# Altium schematic symbol library MCU_Microchip_PIC16.SchLib: 252 symbols (part 1 of 5)
Pins are listed as number, name and electrical type; pins without a type are passive.

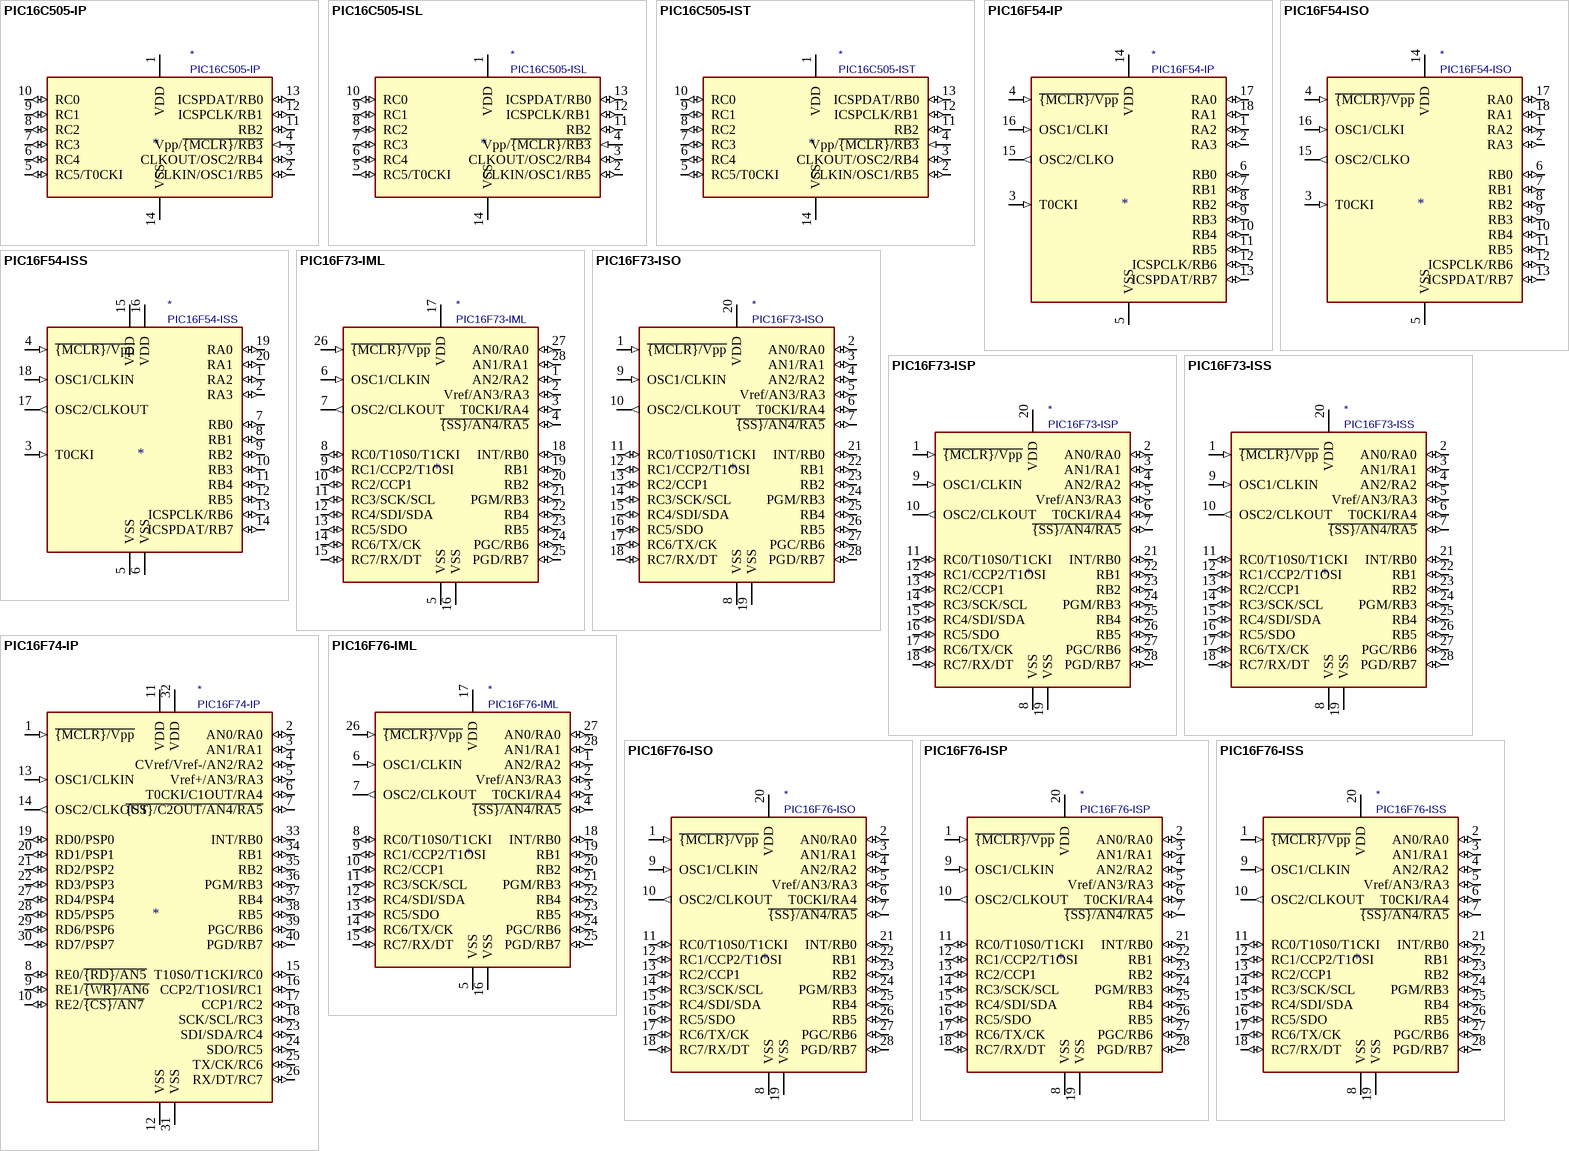
[diagram p0: symbols PIC16C505-IP to PIC16F76-ISS]

## PIC16C505-IP
designator *  value PIC16C505-IP
ki_keywords: ROM-Based 8bit Microcontroller; ki_description: 1024W ROM, 72B SRAM, DIP14; ki_fp_filters: PDIP* DIP*; Supplier: http://ww1.microchip.com/downloads/en/DeviceDoc/41236E.pdf
pins: 1 VDD (power), 2 CLKIN/OSC1/RB5 (io), 3 CLKOUT/OSC2/RB4 (io), 4 Vpp/~{{MCLR}/RB3} (in), 5 RC5/T0CKI (io), 6 RC4 (io), 7 RC3 (io), 8 RC2 (io), 9 RC1 (io), 10 RC0 (io), 11 RB2 (io), 12 ICSPCLK/RB1 (io), 13 ICSPDAT/RB0 (io), 14 VSS (power)

## PIC16C505-ISL
designator *  value PIC16C505-ISL
ki_keywords: ROM-Based 8bit Microcontroller; ki_description: PIC16C505, 1024W ROM, 72B SRAM, SO14; ki_fp_filters: SO* SOIC*; Supplier: http://ww1.microchip.com/downloads/en/DeviceDoc/41236E.pdf
pins: 1 VDD (power), 2 CLKIN/OSC1/RB5 (io), 3 CLKOUT/OSC2/RB4 (io), 4 Vpp/~{{MCLR}/RB3} (in), 5 RC5/T0CKI (io), 6 RC4 (io), 7 RC3 (io), 8 RC2 (io), 9 RC1 (io), 10 RC0 (io), 11 RB2 (io), 12 ICSPCLK/RB1 (io), 13 ICSPDAT/RB0 (io), 14 VSS (power)

## PIC16C505-IST
designator *  value PIC16C505-IST
ki_keywords: ROM-Based 8bit Microcontroller; ki_description: PIC16C505, 1024W ROM, 72B SRAM, TSSOP14; ki_fp_filters: TSSOP*; Supplier: http://ww1.microchip.com/downloads/en/DeviceDoc/41236E.pdf
pins: 1 VDD (power), 2 CLKIN/OSC1/RB5 (io), 3 CLKOUT/OSC2/RB4 (io), 4 Vpp/~{{MCLR}/RB3} (in), 5 RC5/T0CKI (io), 6 RC4 (io), 7 RC3 (io), 8 RC2 (io), 9 RC1 (io), 10 RC0 (io), 11 RB2 (io), 12 ICSPCLK/RB1 (io), 13 ICSPDAT/RB0 (io), 14 VSS (power)

## PIC16F54-IP
designator *  value PIC16F54-IP
ki_keywords: FLASH-Based 8-Bit CMOS Microcontroller; ki_description: 512W FLASH, 25B SRAM, DIP18; ki_fp_filters: DIP* PDIP*; Supplier: http://ww1.microchip.com/downloads/en/DeviceDoc/41213D.pdf
pins: 1 RA2 (io), 2 RA3 (io), 3 T0CKI (in), 4 ~{{MCLR}/Vpp} (in), 5 VSS (power), 6 RB0 (io), 7 RB1 (io), 8 RB2 (io), 9 RB3 (io), 10 RB4 (io), 11 RB5 (io), 12 ICSPCLK/RB6 (io), 13 ICSPDAT/RB7 (io), 14 VDD (power), 15 OSC2/CLKO (out), 16 OSC1/CLKI (in), 17 RA0 (io), 18 RA1 (io)

## PIC16F54-ISO
designator *  value PIC16F54-ISO
ki_keywords: FLASH-Based 8-Bit CMOS Microcontroller; ki_description: PIC16F54, 512W FLASH, 25B SRAM, SO18; ki_fp_filters: SO* SOIC*; Supplier: http://ww1.microchip.com/downloads/en/DeviceDoc/41213D.pdf
pins: 1 RA2 (io), 2 RA3 (io), 3 T0CKI (in), 4 ~{{MCLR}/Vpp} (in), 5 VSS (power), 6 RB0 (io), 7 RB1 (io), 8 RB2 (io), 9 RB3 (io), 10 RB4 (io), 11 RB5 (io), 12 ICSPCLK/RB6 (io), 13 ICSPDAT/RB7 (io), 14 VDD (power), 15 OSC2/CLKO (out), 16 OSC1/CLKI (in), 17 RA0 (io), 18 RA1 (io)

## PIC16F54-ISS
designator *  value PIC16F54-ISS
ki_keywords: FLASH-Based 8-Bit CMOS Microcontroller; ki_description: PIC16F54, 512W FLASH, 25B SRAM, SSOP20; ki_fp_filters: SSOP*; Supplier: http://ww1.microchip.com/downloads/en/DeviceDoc/41213D.pdf
pins: 1 RA2 (io), 2 RA3 (io), 3 T0CKI (in), 4 ~{{MCLR}/Vpp} (in), 5 VSS (power), 6 VSS (power), 7 RB0 (io), 8 RB1 (io), 9 RB2 (io), 10 RB3 (io), 11 RB4 (io), 12 RB5 (io), 13 ICSPCLK/RB6 (io), 14 ICSPDAT/RB7 (io), 15 VDD (power), 16 VDD (power), 17 OSC2/CLKOUT (out), 18 OSC1/CLKIN (in), 19 RA0 (io), 20 RA1 (io)

## PIC16F73-IML
designator *  value PIC16F73-IML
ki_keywords: Flash-Based 8-Bit Microcontroller; ki_description: PIC16F73, 4K Flash, 192B SRAM, ADC, PWM, MLF28; ki_fp_filters: MLF*; Supplier: http://ww1.microchip.com/downloads/en/DeviceDoc/30325b.pdf
pins: 1 AN2/RA2 (io), 2 Vref/AN3/RA3 (io), 3 T0CKI/RA4 (io), 4 ~{{SS}/AN4/RA5} (io), 5 VSS (power), 6 OSC1/CLKIN (in), 7 OSC2/CLKOUT (out), 8 RC0/T10S0/T1CKI (io), 9 RC1/CCP2/T1OSI (io), 10 RC2/CCP1 (io), 11 RC3/SCK/SCL (io), 12 RC4/SDI/SDA (io), 13 RC5/SDO (io), 14 RC6/TX/CK (io), 15 RC7/RX/DT (io), 16 VSS (power), 17 VDD (power), 18 INT/RB0 (io), 19 RB1 (io), 20 RB2 (io), 21 PGM/RB3 (io), 22 RB4 (io), 23 RB5 (io), 24 PGC/RB6 (io), 25 PGD/RB7 (io), 26 ~{{MCLR}/Vpp} (in), 27 AN0/RA0 (io), 28 AN1/RA1 (io)

## PIC16F73-ISO
designator *  value PIC16F73-ISO
ki_keywords: Flash-Based 8-Bit Microcontroller; ki_description: PIC16F73, 4K Flash, 192B SRAM, ADC, PWM, SOIC28; ki_fp_filters: SO*; Supplier: http://ww1.microchip.com/downloads/en/DeviceDoc/30325b.pdf
pins: 1 ~{{MCLR}/Vpp} (in), 2 AN0/RA0 (io), 3 AN1/RA1 (io), 4 AN2/RA2 (io), 5 Vref/AN3/RA3 (io), 6 T0CKI/RA4 (io), 7 ~{{SS}/AN4/RA5} (io), 8 VSS (power), 9 OSC1/CLKIN (in), 10 OSC2/CLKOUT (out), 11 RC0/T10S0/T1CKI (io), 12 RC1/CCP2/T1OSI (io), 13 RC2/CCP1 (io), 14 RC3/SCK/SCL (io), 15 RC4/SDI/SDA (io), 16 RC5/SDO (io), 17 RC6/TX/CK (io), 18 RC7/RX/DT (io), 19 VSS (power), 20 VDD (power), 21 INT/RB0 (io), 22 RB1 (io), 23 RB2 (io), 24 PGM/RB3 (io), 25 RB4 (io), 26 RB5 (io), 27 PGC/RB6 (io), 28 PGD/RB7 (io)

## PIC16F73-ISP
designator *  value PIC16F73-ISP
ki_keywords: Flash-Based 8-Bit Microcontroller; ki_description: PIC16F73, 4K Flash, 192B SRAM, ADC, PWM, SDIP28; ki_fp_filters: DIP* PDIP*; Supplier: http://ww1.microchip.com/downloads/en/DeviceDoc/30325b.pdf
pins: 1 ~{{MCLR}/Vpp} (in), 2 AN0/RA0 (io), 3 AN1/RA1 (io), 4 AN2/RA2 (io), 5 Vref/AN3/RA3 (io), 6 T0CKI/RA4 (io), 7 ~{{SS}/AN4/RA5} (io), 8 VSS (power), 9 OSC1/CLKIN (in), 10 OSC2/CLKOUT (out), 11 RC0/T10S0/T1CKI (io), 12 RC1/CCP2/T1OSI (io), 13 RC2/CCP1 (io), 14 RC3/SCK/SCL (io), 15 RC4/SDI/SDA (io), 16 RC5/SDO (io), 17 RC6/TX/CK (io), 18 RC7/RX/DT (io), 19 VSS (power), 20 VDD (power), 21 INT/RB0 (io), 22 RB1 (io), 23 RB2 (io), 24 PGM/RB3 (io), 25 RB4 (io), 26 RB5 (io), 27 PGC/RB6 (io), 28 PGD/RB7 (io)

## PIC16F73-ISS
designator *  value PIC16F73-ISS
ki_keywords: Flash-Based 8-Bit Microcontroller; ki_description: PIC16F73, 4K Flash, 192B SRAM, ADC, PWM, SSOP28; ki_fp_filters: SSOP*; Supplier: http://ww1.microchip.com/downloads/en/DeviceDoc/30325b.pdf
pins: 1 ~{{MCLR}/Vpp} (in), 2 AN0/RA0 (io), 3 AN1/RA1 (io), 4 AN2/RA2 (io), 5 Vref/AN3/RA3 (io), 6 T0CKI/RA4 (io), 7 ~{{SS}/AN4/RA5} (io), 8 VSS (power), 9 OSC1/CLKIN (in), 10 OSC2/CLKOUT (out), 11 RC0/T10S0/T1CKI (io), 12 RC1/CCP2/T1OSI (io), 13 RC2/CCP1 (io), 14 RC3/SCK/SCL (io), 15 RC4/SDI/SDA (io), 16 RC5/SDO (io), 17 RC6/TX/CK (io), 18 RC7/RX/DT (io), 19 VSS (power), 20 VDD (power), 21 INT/RB0 (io), 22 RB1 (io), 23 RB2 (io), 24 PGM/RB3 (io), 25 RB4 (io), 26 RB5 (io), 27 PGC/RB6 (io), 28 PGD/RB7 (io)

## PIC16F74-IP
designator *  value PIC16F74-IP
ki_keywords: Flash-Based 8-Bit Microcontroller; ki_description: 4K Flash, 192B SRAM, ADC, PWM, DIP40; ki_fp_filters: DIP* PDIP*; Supplier: http://ww1.microchip.com/downloads/en/DeviceDoc/30325b.pdf
pins: 1 ~{{MCLR}/Vpp} (in), 2 AN0/RA0 (io), 3 AN1/RA1 (io), 4 CVref/Vref-/AN2/RA2 (io), 5 Vref+/AN3/RA3 (io), 6 T0CKI/C1OUT/RA4 (io), 7 ~{{SS}/C2OUT/AN4/RA5} (io), 8 RE0/~{{RD}/AN5} (io), 9 RE1/~{{WR}/AN6} (io), 10 RE2/~{{CS}/AN7} (io), 11 VDD (power), 12 VSS (power), 13 OSC1/CLKIN (in), 14 OSC2/CLKOUT (out), 15 T10S0/T1CKI/RC0 (io), 16 CCP2/T1OSI/RC1 (io), 17 CCP1/RC2 (io), 18 SCK/SCL/RC3 (io), 19 RD0/PSP0 (io), 20 RD1/PSP1 (io), 21 RD2/PSP2 (io), 22 RD3/PSP3 (io), 23 SDI/SDA/RC4 (io), 24 SDO/RC5 (io), 25 TX/CK/RC6 (io), 26 RX/DT/RC7 (io), 27 RD4/PSP4 (io), 28 RD5/PSP5 (io), 29 RD6/PSP6 (io), 30 RD7/PSP7 (io), 31 VSS (power), 32 VDD (power), 33 INT/RB0 (io), 34 RB1 (io), 35 RB2 (io), 36 PGM/RB3 (io), 37 RB4 (io), 38 RB5 (io), 39 PGC/RB6 (io), 40 PGD/RB7 (io)

## PIC16F76-IML
designator *  value PIC16F76-IML
ki_keywords: Flash-Based 8-Bit Microcontroller; ki_description: PIC16F76, 8K Flash, 368B SRAM, ADC, PWM, MLF28; ki_fp_filters: MLF*; Supplier: http://ww1.microchip.com/downloads/en/DeviceDoc/30325b.pdf
pins: 1 AN2/RA2 (io), 2 Vref/AN3/RA3 (io), 3 T0CKI/RA4 (io), 4 ~{{SS}/AN4/RA5} (io), 5 VSS (power), 6 OSC1/CLKIN (in), 7 OSC2/CLKOUT (out), 8 RC0/T10S0/T1CKI (io), 9 RC1/CCP2/T1OSI (io), 10 RC2/CCP1 (io), 11 RC3/SCK/SCL (io), 12 RC4/SDI/SDA (io), 13 RC5/SDO (io), 14 RC6/TX/CK (io), 15 RC7/RX/DT (io), 16 VSS (power), 17 VDD (power), 18 INT/RB0 (io), 19 RB1 (io), 20 RB2 (io), 21 PGM/RB3 (io), 22 RB4 (io), 23 RB5 (io), 24 PGC/RB6 (io), 25 PGD/RB7 (io), 26 ~{{MCLR}/Vpp} (in), 27 AN0/RA0 (io), 28 AN1/RA1 (io)

## PIC16F76-ISO
designator *  value PIC16F76-ISO
ki_keywords: Flash-Based 8-Bit Microcontroller; ki_description: PIC16F76, 8K Flash, 368B SRAM, ADC, PWM, SOIC28; ki_fp_filters: SO*; Supplier: http://ww1.microchip.com/downloads/en/DeviceDoc/30325b.pdf
pins: 1 ~{{MCLR}/Vpp} (in), 2 AN0/RA0 (io), 3 AN1/RA1 (io), 4 AN2/RA2 (io), 5 Vref/AN3/RA3 (io), 6 T0CKI/RA4 (io), 7 ~{{SS}/AN4/RA5} (io), 8 VSS (power), 9 OSC1/CLKIN (in), 10 OSC2/CLKOUT (out), 11 RC0/T10S0/T1CKI (io), 12 RC1/CCP2/T1OSI (io), 13 RC2/CCP1 (io), 14 RC3/SCK/SCL (io), 15 RC4/SDI/SDA (io), 16 RC5/SDO (io), 17 RC6/TX/CK (io), 18 RC7/RX/DT (io), 19 VSS (power), 20 VDD (power), 21 INT/RB0 (io), 22 RB1 (io), 23 RB2 (io), 24 PGM/RB3 (io), 25 RB4 (io), 26 RB5 (io), 27 PGC/RB6 (io), 28 PGD/RB7 (io)

## PIC16F76-ISP
designator *  value PIC16F76-ISP
ki_keywords: Flash-Based 8-Bit Microcontroller; ki_description: PIC16F76, 8K Flash, 368B SRAM, ADC, PWM, SDIP28; ki_fp_filters: DIP* PDIP*; Supplier: http://ww1.microchip.com/downloads/en/DeviceDoc/30325b.pdf
pins: 1 ~{{MCLR}/Vpp} (in), 2 AN0/RA0 (io), 3 AN1/RA1 (io), 4 AN2/RA2 (io), 5 Vref/AN3/RA3 (io), 6 T0CKI/RA4 (io), 7 ~{{SS}/AN4/RA5} (io), 8 VSS (power), 9 OSC1/CLKIN (in), 10 OSC2/CLKOUT (out), 11 RC0/T10S0/T1CKI (io), 12 RC1/CCP2/T1OSI (io), 13 RC2/CCP1 (io), 14 RC3/SCK/SCL (io), 15 RC4/SDI/SDA (io), 16 RC5/SDO (io), 17 RC6/TX/CK (io), 18 RC7/RX/DT (io), 19 VSS (power), 20 VDD (power), 21 INT/RB0 (io), 22 RB1 (io), 23 RB2 (io), 24 PGM/RB3 (io), 25 RB4 (io), 26 RB5 (io), 27 PGC/RB6 (io), 28 PGD/RB7 (io)

## PIC16F76-ISS
designator *  value PIC16F76-ISS
ki_keywords: Flash-Based 8-Bit Microcontroller; ki_description: PIC16F76, 8K Flash, 368B SRAM, ADC, PWM, SSOP28; ki_fp_filters: SSOP*; Supplier: http://ww1.microchip.com/downloads/en/DeviceDoc/30325b.pdf
pins: 1 ~{{MCLR}/Vpp} (in), 2 AN0/RA0 (io), 3 AN1/RA1 (io), 4 AN2/RA2 (io), 5 Vref/AN3/RA3 (io), 6 T0CKI/RA4 (io), 7 ~{{SS}/AN4/RA5} (io), 8 VSS (power), 9 OSC1/CLKIN (in), 10 OSC2/CLKOUT (out), 11 RC0/T10S0/T1CKI (io), 12 RC1/CCP2/T1OSI (io), 13 RC2/CCP1 (io), 14 RC3/SCK/SCL (io), 15 RC4/SDI/SDA (io), 16 RC5/SDO (io), 17 RC6/TX/CK (io), 18 RC7/RX/DT (io), 19 VSS (power), 20 VDD (power), 21 INT/RB0 (io), 22 RB1 (io), 23 RB2 (io), 24 PGM/RB3 (io), 25 RB4 (io), 26 RB5 (io), 27 PGC/RB6 (io), 28 PGD/RB7 (io)

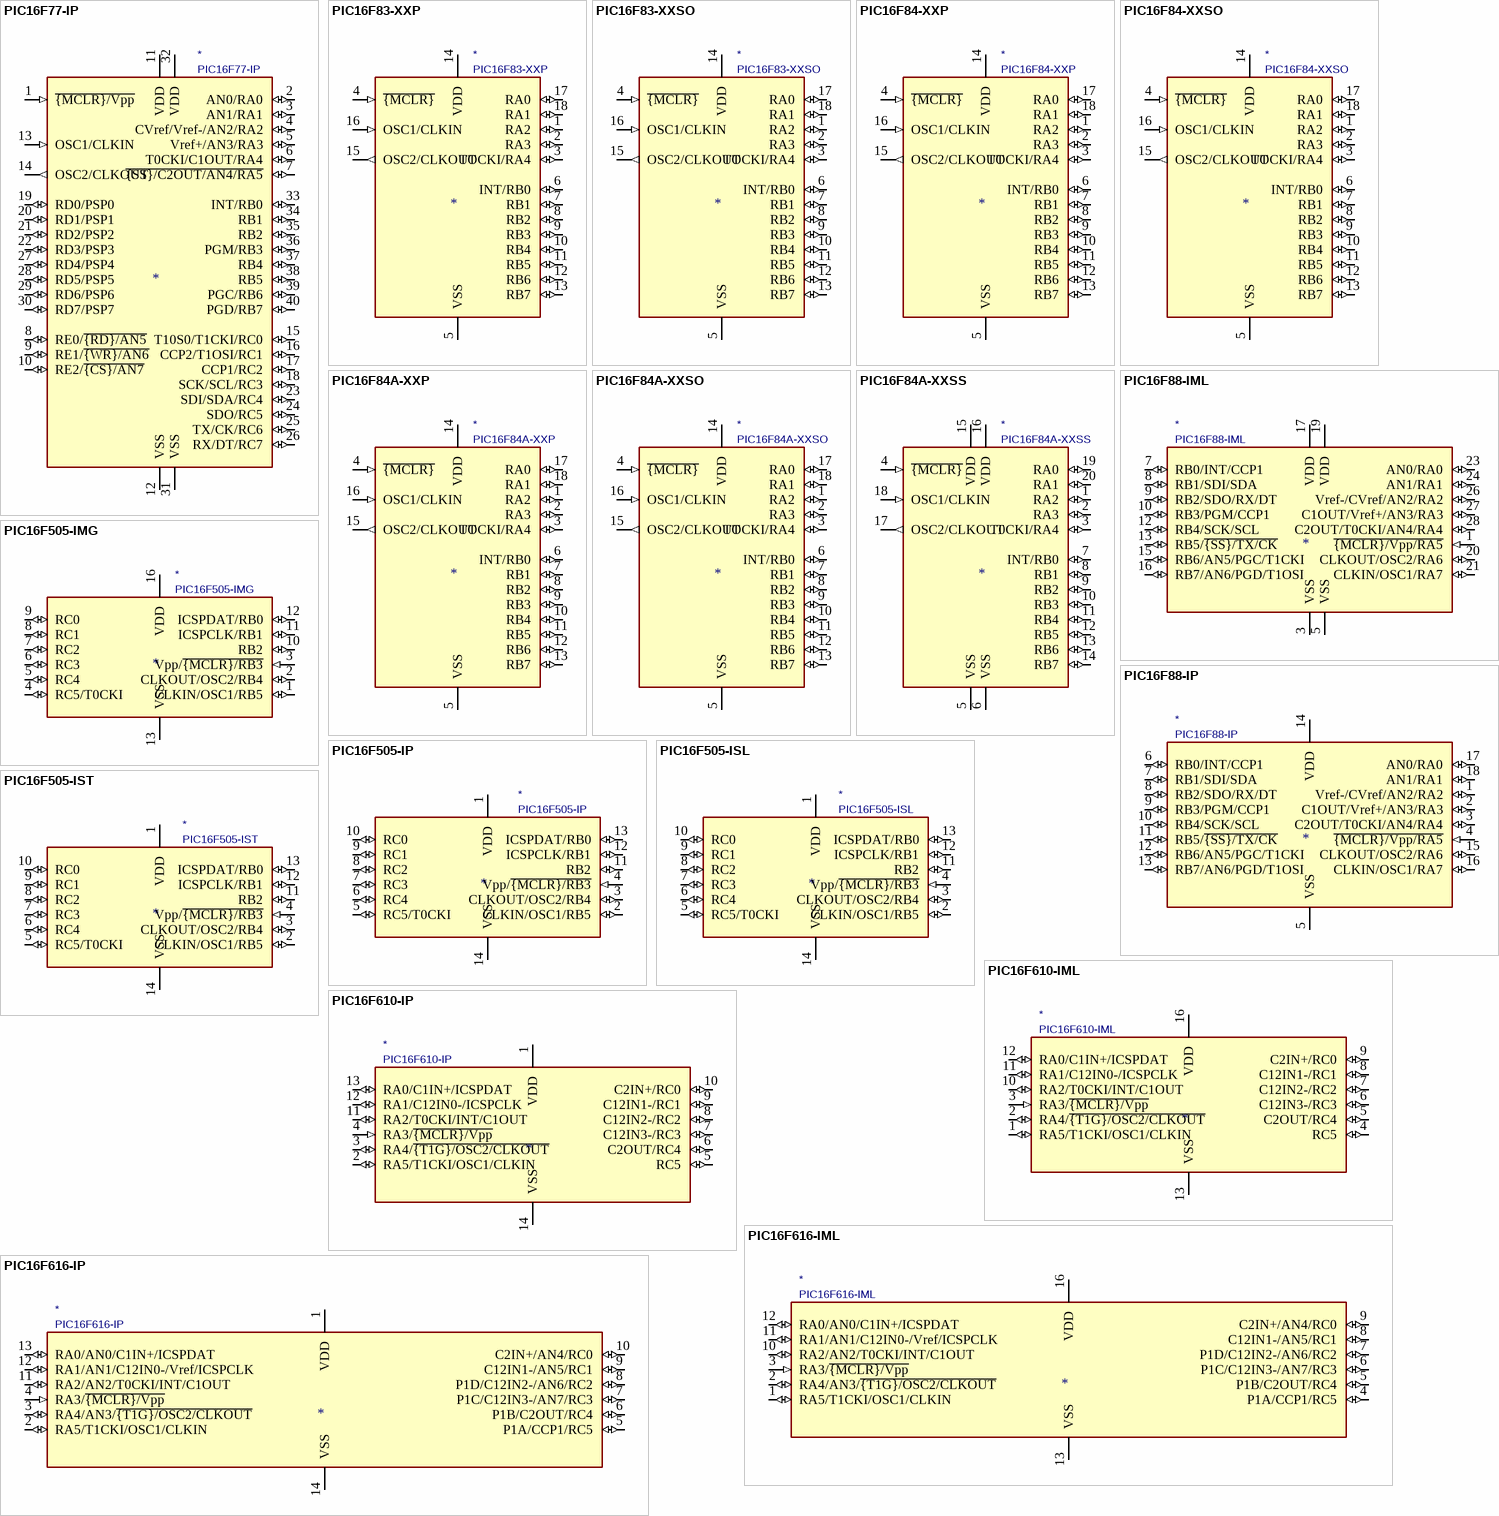
[diagram p1: symbols PIC16F77-IP to PIC16F616-IP]

## PIC16F77-IP
designator *  value PIC16F77-IP
ki_keywords: Flash-Based 8-Bit Microcontroller; ki_description: 8K Flash, 368B SRAM, ADC, PWM, DIP40; ki_fp_filters: DIP* PDIP*; Supplier: http://ww1.microchip.com/downloads/en/DeviceDoc/30325b.pdf
pins: 1 ~{{MCLR}/Vpp} (in), 2 AN0/RA0 (io), 3 AN1/RA1 (io), 4 CVref/Vref-/AN2/RA2 (io), 5 Vref+/AN3/RA3 (io), 6 T0CKI/C1OUT/RA4 (io), 7 ~{{SS}/C2OUT/AN4/RA5} (io), 8 RE0/~{{RD}/AN5} (io), 9 RE1/~{{WR}/AN6} (io), 10 RE2/~{{CS}/AN7} (io), 11 VDD (power), 12 VSS (power), 13 OSC1/CLKIN (in), 14 OSC2/CLKOUT (out), 15 T10S0/T1CKI/RC0 (io), 16 CCP2/T1OSI/RC1 (io), 17 CCP1/RC2 (io), 18 SCK/SCL/RC3 (io), 19 RD0/PSP0 (io), 20 RD1/PSP1 (io), 21 RD2/PSP2 (io), 22 RD3/PSP3 (io), 23 SDI/SDA/RC4 (io), 24 SDO/RC5 (io), 25 TX/CK/RC6 (io), 26 RX/DT/RC7 (io), 27 RD4/PSP4 (io), 28 RD5/PSP5 (io), 29 RD6/PSP6 (io), 30 RD7/PSP7 (io), 31 VSS (power), 32 VDD (power), 33 INT/RB0 (io), 34 RB1 (io), 35 RB2 (io), 36 PGM/RB3 (io), 37 RB4 (io), 38 RB5 (io), 39 PGC/RB6 (io), 40 PGD/RB7 (io)

## PIC16F83-XXP
designator *  value PIC16F83-XXP
ki_keywords: Flash-Based 8-Bit Microcontroller; ki_description: PIC16F83, 512B Flash, 36B SRAM, 64B EEPROM, DIP18; ki_fp_filters: DIP* PDIP*; Supplier: http://ww1.microchip.com/downloads/en/DeviceDoc/30430c.pdf
pins: 1 RA2 (io), 2 RA3 (io), 3 TOCKI/RA4 (io), 4 ~{{MCLR}} (in), 5 VSS (power), 6 INT/RB0 (io), 7 RB1 (io), 8 RB2 (io), 9 RB3 (io), 10 RB4 (io), 11 RB5 (io), 12 RB6 (io), 13 RB7 (io), 14 VDD (power), 15 OSC2/CLKOUT (out), 16 OSC1/CLKIN (in), 17 RA0 (io), 18 RA1 (io)

## PIC16F83-XXSO
designator *  value PIC16F83-XXSO
ki_keywords: Flash-Based 8-Bit Microcontroller; ki_description: PIC16F83, 512B Flash, 36B SRAM, 64B EEPROM, SOIC18; ki_fp_filters: SO*; Supplier: http://ww1.microchip.com/downloads/en/DeviceDoc/30430c.pdf
pins: 1 RA2 (io), 2 RA3 (io), 3 TOCKI/RA4 (io), 4 ~{{MCLR}} (in), 5 VSS (power), 6 INT/RB0 (io), 7 RB1 (io), 8 RB2 (io), 9 RB3 (io), 10 RB4 (io), 11 RB5 (io), 12 RB6 (io), 13 RB7 (io), 14 VDD (power), 15 OSC2/CLKOUT (out), 16 OSC1/CLKIN (in), 17 RA0 (io), 18 RA1 (io)

## PIC16F84-XXP
designator *  value PIC16F84-XXP
ki_keywords: Flash-Based 8-Bit Microcontroller; ki_description: PIC16F84, 1K Flash, 68B SRAM, 64B EEPROM, DIP18; ki_fp_filters: DIP* PDIP*; Supplier: http://ww1.microchip.com/downloads/en/DeviceDoc/30430c.pdf
pins: 1 RA2 (io), 2 RA3 (io), 3 TOCKI/RA4 (io), 4 ~{{MCLR}} (in), 5 VSS (power), 6 INT/RB0 (io), 7 RB1 (io), 8 RB2 (io), 9 RB3 (io), 10 RB4 (io), 11 RB5 (io), 12 RB6 (io), 13 RB7 (io), 14 VDD (power), 15 OSC2/CLKOUT (out), 16 OSC1/CLKIN (in), 17 RA0 (io), 18 RA1 (io)

## PIC16F84-XXSO
designator *  value PIC16F84-XXSO
ki_keywords: Flash-Based 8-Bit Microcontroller; ki_description: PIC16F84, 1KB Flash, 68B SRAM, 64B EEPROM, SOIC18; ki_fp_filters: SO*; Supplier: http://ww1.microchip.com/downloads/en/DeviceDoc/30430c.pdf
pins: 1 RA2 (io), 2 RA3 (io), 3 TOCKI/RA4 (io), 4 ~{{MCLR}} (in), 5 VSS (power), 6 INT/RB0 (io), 7 RB1 (io), 8 RB2 (io), 9 RB3 (io), 10 RB4 (io), 11 RB5 (io), 12 RB6 (io), 13 RB7 (io), 14 VDD (power), 15 OSC2/CLKOUT (out), 16 OSC1/CLKIN (in), 17 RA0 (io), 18 RA1 (io)

## PIC16F84A-XXP
designator *  value PIC16F84A-XXP
ki_keywords: Flash-Based 8-Bit Microcontroller; ki_description: PIC16F84A, 1K Flash, 68B SRAM, 64B EEPROM, DIP18; ki_fp_filters: DIP* PDIP*; Supplier: http://ww1.microchip.com/downloads/en/devicedoc/35007b.pdf
pins: 1 RA2 (io), 2 RA3 (io), 3 TOCKI/RA4 (io), 4 ~{{MCLR}} (in), 5 VSS (power), 6 INT/RB0 (io), 7 RB1 (io), 8 RB2 (io), 9 RB3 (io), 10 RB4 (io), 11 RB5 (io), 12 RB6 (io), 13 RB7 (io), 14 VDD (power), 15 OSC2/CLKOUT (out), 16 OSC1/CLKIN (in), 17 RA0 (io), 18 RA1 (io)

## PIC16F84A-XXSO
designator *  value PIC16F84A-XXSO
ki_keywords: Flash-Based 8-Bit Microcontroller; ki_description: PIC16F84A, 1KB Flash, 68B SRAM, 64B EEPROM, SOIC18; ki_fp_filters: SO*; Supplier: http://ww1.microchip.com/downloads/en/devicedoc/35007b.pdf
pins: 1 RA2 (io), 2 RA3 (io), 3 TOCKI/RA4 (io), 4 ~{{MCLR}} (in), 5 VSS (power), 6 INT/RB0 (io), 7 RB1 (io), 8 RB2 (io), 9 RB3 (io), 10 RB4 (io), 11 RB5 (io), 12 RB6 (io), 13 RB7 (io), 14 VDD (power), 15 OSC2/CLKOUT (out), 16 OSC1/CLKIN (in), 17 RA0 (io), 18 RA1 (io)

## PIC16F84A-XXSS
designator *  value PIC16F84A-XXSS
ki_keywords: Flash-Based 8-Bit Microcontroller; ki_description: PIC16F84A, 1KB Flash, 68B SRAM, 64B EEPROM, SSOP18; ki_fp_filters: SSOP*; Supplier: http://ww1.microchip.com/downloads/en/devicedoc/35007b.pdf
pins: 1 RA2 (io), 2 RA3 (io), 3 T0CKI/RA4 (io), 4 ~{{MCLR}} (in), 5 VSS (power), 6 VSS (power), 7 INT/RB0 (io), 8 RB1 (io), 9 RB2 (io), 10 RB3 (io), 11 RB4 (io), 12 RB5 (io), 13 RB6 (io), 14 RB7 (io), 15 VDD (power), 16 VDD (power), 17 OSC2/CLKOUT (out), 18 OSC1/CLKIN (in), 19 RA0 (io), 20 RA1 (io)

## PIC16F88-IML
designator *  value PIC16F88-IML
ki_keywords: FLASH-Based 8-Bit CMOS Microcontroller; ki_description: PIC16F88, 4096W Flash, 368B SRAM, 256B EEPROM, QFN-28; ki_fp_filters: DIP* PDIP*; Supplier: http://ww1.microchip.com/downloads/en/DeviceDoc/30487D.pdf
pins: 1 ~{{MCLR}/Vpp/RA5} (in), 3 VSS (power), 5 VSS (power), 7 RB0/INT/CCP1 (io), 8 RB1/SDI/SDA (io), 9 RB2/SDO/RX/DT (io), 10 RB3/PGM/CCP1 (io), 12 RB4/SCK/SCL (io), 13 RB5/~{{SS}/TX/CK} (io), 15 RB6/AN5/PGC/T1CKI (io), 16 RB7/AN6/PGD/T1OSI (io), 17 VDD (power), 19 VDD (power), 20 CLKOUT/OSC2/RA6 (io), 21 CLKIN/OSC1/RA7 (io), 23 AN0/RA0 (io), 24 AN1/RA1 (io), 26 Vref-/CVref/AN2/RA2 (io), 27 C1OUT/Vref+/AN3/RA3 (io), 28 C2OUT/T0CKI/AN4/RA4 (io)

## PIC16F88-IP
designator *  value PIC16F88-IP
ki_keywords: FLASH-Based 8-Bit CMOS Microcontroller; ki_description: PIC16F88, 4096W Flash, 368B SRAM, 256B EEPROM, DIP18; ki_fp_filters: DIP* PDIP*; Supplier: http://ww1.microchip.com/downloads/en/DeviceDoc/30487D.pdf
pins: 1 Vref-/CVref/AN2/RA2 (io), 2 C1OUT/Vref+/AN3/RA3 (io), 3 C2OUT/T0CKI/AN4/RA4 (io), 4 ~{{MCLR}/Vpp/RA5} (in), 5 VSS (power), 6 RB0/INT/CCP1 (io), 7 RB1/SDI/SDA (io), 8 RB2/SDO/RX/DT (io), 9 RB3/PGM/CCP1 (io), 10 RB4/SCK/SCL (io), 11 RB5/~{{SS}/TX/CK} (io), 12 RB6/AN5/PGC/T1CKI (io), 13 RB7/AN6/PGD/T1OSI (io), 14 VDD (power), 15 CLKOUT/OSC2/RA6 (io), 16 CLKIN/OSC1/RA7 (io), 17 AN0/RA0 (io), 18 AN1/RA1 (io)

## PIC16F505-IMG
designator *  value PIC16F505-IMG
ki_keywords: FLASH-Based 8bit Microcontroller; ki_description: PIC16F505, 1024W FLASH, 72B SRAM, QFN16; ki_fp_filters: QFN*; Supplier: http://ww1.microchip.com/downloads/en/DeviceDoc/41236E.pdf
pins: 1 CLKIN/OSC1/RB5 (io), 2 CLKOUT/OSC2/RB4 (io), 3 Vpp/~{{MCLR}/RB3} (in), 4 RC5/T0CKI (io), 5 RC4 (io), 6 RC3 (io), 7 RC2 (io), 8 RC1 (io), 9 RC0 (io), 10 RB2 (io), 11 ICSPCLK/RB1 (io), 12 ICSPDAT/RB0 (io), 13 VSS (power), 16 VDD (power)

## PIC16F505-IP
designator *  value PIC16F505-IP
ki_keywords: FLASH-Based 8bit Microcontroller; ki_description: 1024W FLASH, 72B SRAM, DIP14; ki_fp_filters: PDIP* DIP*; Supplier: http://ww1.microchip.com/downloads/en/DeviceDoc/41236E.pdf
pins: 1 VDD (power), 2 CLKIN/OSC1/RB5 (io), 3 CLKOUT/OSC2/RB4 (io), 4 Vpp/~{{MCLR}/RB3} (in), 5 RC5/T0CKI (io), 6 RC4 (io), 7 RC3 (io), 8 RC2 (io), 9 RC1 (io), 10 RC0 (io), 11 RB2 (io), 12 ICSPCLK/RB1 (io), 13 ICSPDAT/RB0 (io), 14 VSS (power)

## PIC16F505-ISL
designator *  value PIC16F505-ISL
ki_keywords: FLASH-Based 8bit Microcontroller; ki_description: PIC16F505, 1024W FLASH, 72B SRAM, SO14; ki_fp_filters: SO* SOIC*; Supplier: http://ww1.microchip.com/downloads/en/DeviceDoc/41236E.pdf
pins: 1 VDD (power), 2 CLKIN/OSC1/RB5 (io), 3 CLKOUT/OSC2/RB4 (io), 4 Vpp/~{{MCLR}/RB3} (in), 5 RC5/T0CKI (io), 6 RC4 (io), 7 RC3 (io), 8 RC2 (io), 9 RC1 (io), 10 RC0 (io), 11 RB2 (io), 12 ICSPCLK/RB1 (io), 13 ICSPDAT/RB0 (io), 14 VSS (power)

## PIC16F505-IST
designator *  value PIC16F505-IST
ki_keywords: FLASH-Based 8bit Microcontroller; ki_description: PIC16F505, 1024W FLASH, 72B SRAM, TSSOP14; ki_fp_filters: TSSOP*; Supplier: http://ww1.microchip.com/downloads/en/DeviceDoc/41236E.pdf
pins: 1 VDD (power), 2 CLKIN/OSC1/RB5 (io), 3 CLKOUT/OSC2/RB4 (io), 4 Vpp/~{{MCLR}/RB3} (in), 5 RC5/T0CKI (io), 6 RC4 (io), 7 RC3 (io), 8 RC2 (io), 9 RC1 (io), 10 RC0 (io), 11 RB2 (io), 12 ICSPCLK/RB1 (io), 13 ICSPDAT/RB0 (io), 14 VSS (power)

## PIC16F610-IML
designator *  value PIC16F610-IML
ki_keywords: FLASH-Based 8-Bit CMOS Microcontroller Low Power; ki_description: PIC16F610, 1024W FLASH, 64B SRAM, QFN-16; ki_fp_filters: QFN*; Supplier: http://ww1.microchip.com/downloads/en/DeviceDoc/41288F.pdf
pins: 1 RA5/T1CKI/OSC1/CLKIN (io), 2 RA4/~{{T1G}/OSC2/CLKOUT} (io), 3 RA3/~{{MCLR}/Vpp} (in), 4 RC5 (io), 5 C2OUT/RC4 (io), 6 C12IN3-/RC3 (io), 7 C12IN2-/RC2 (io), 8 C12IN1-/RC1 (io), 9 C2IN+/RC0 (io), 10 RA2/T0CKI/INT/C1OUT (io), 11 RA1/C12IN0-/ICSPCLK (io), 12 RA0/C1IN+/ICSPDAT (io), 13 VSS (power), 16 VDD (power)

## PIC16F610-IP
designator *  value PIC16F610-IP
ki_keywords: FLASH-Based 8-Bit CMOS Microcontroller Low Power; ki_description: 1024W FLASH, 64B SRAM, PDIP-14; ki_fp_filters: DIP* PDIP* SO*; Supplier: http://ww1.microchip.com/downloads/en/DeviceDoc/41288F.pdf
pins: 1 VDD (power), 2 RA5/T1CKI/OSC1/CLKIN (io), 3 RA4/~{{T1G}/OSC2/CLKOUT} (io), 4 RA3/~{{MCLR}/Vpp} (in), 5 RC5 (io), 6 C2OUT/RC4 (io), 7 C12IN3-/RC3 (io), 8 C12IN2-/RC2 (io), 9 C12IN1-/RC1 (io), 10 C2IN+/RC0 (io), 11 RA2/T0CKI/INT/C1OUT (io), 12 RA1/C12IN0-/ICSPCLK (io), 13 RA0/C1IN+/ICSPDAT (io), 14 VSS (power)

## PIC16F616-IML
designator *  value PIC16F616-IML
ki_keywords: FLASH-Based 8-Bit CMOS Microcontroller Low Power; ki_description: PIC16F616, 2048W FLASH, 128B SRAM, QFN-16; ki_fp_filters: QFN*; Supplier: http://ww1.microchip.com/downloads/en/DeviceDoc/41288F.pdf
pins: 1 RA5/T1CKI/OSC1/CLKIN (io), 2 RA4/AN3/~{{T1G}/OSC2/CLKOUT} (io), 3 RA3/~{{MCLR}/Vpp} (in), 4 P1A/CCP1/RC5 (io), 5 P1B/C2OUT/RC4 (io), 6 P1C/C12IN3-/AN7/RC3 (io), 7 P1D/C12IN2-/AN6/RC2 (io), 8 C12IN1-/AN5/RC1 (io), 9 C2IN+/AN4/RC0 (io), 10 RA2/AN2/T0CKI/INT/C1OUT (io), 11 RA1/AN1/C12IN0-/Vref/ICSPCLK (io), 12 RA0/AN0/C1IN+/ICSPDAT (io), 13 VSS (power), 16 VDD (power)

## PIC16F616-IP
designator *  value PIC16F616-IP
ki_keywords: FLASH-Based 8-Bit CMOS Microcontroller Low Power; ki_description: 2048W FLASH, 128B SRAM, PDIP-14; ki_fp_filters: DIP* PDIP* SO*; Supplier: http://ww1.microchip.com/downloads/en/DeviceDoc/41288F.pdf
pins: 1 VDD (power), 2 RA5/T1CKI/OSC1/CLKIN (io), 3 RA4/AN3/~{{T1G}/OSC2/CLKOUT} (io), 4 RA3/~{{MCLR}/Vpp} (in), 5 P1A/CCP1/RC5 (io), 6 P1B/C2OUT/RC4 (io), 7 P1C/C12IN3-/AN7/RC3 (io), 8 P1D/C12IN2-/AN6/RC2 (io), 9 C12IN1-/AN5/RC1 (io), 10 C2IN+/AN4/RC0 (io), 11 RA2/AN2/T0CKI/INT/C1OUT (io), 12 RA1/AN1/C12IN0-/Vref/ICSPCLK (io), 13 RA0/AN0/C1IN+/ICSPDAT (io), 14 VSS (power)

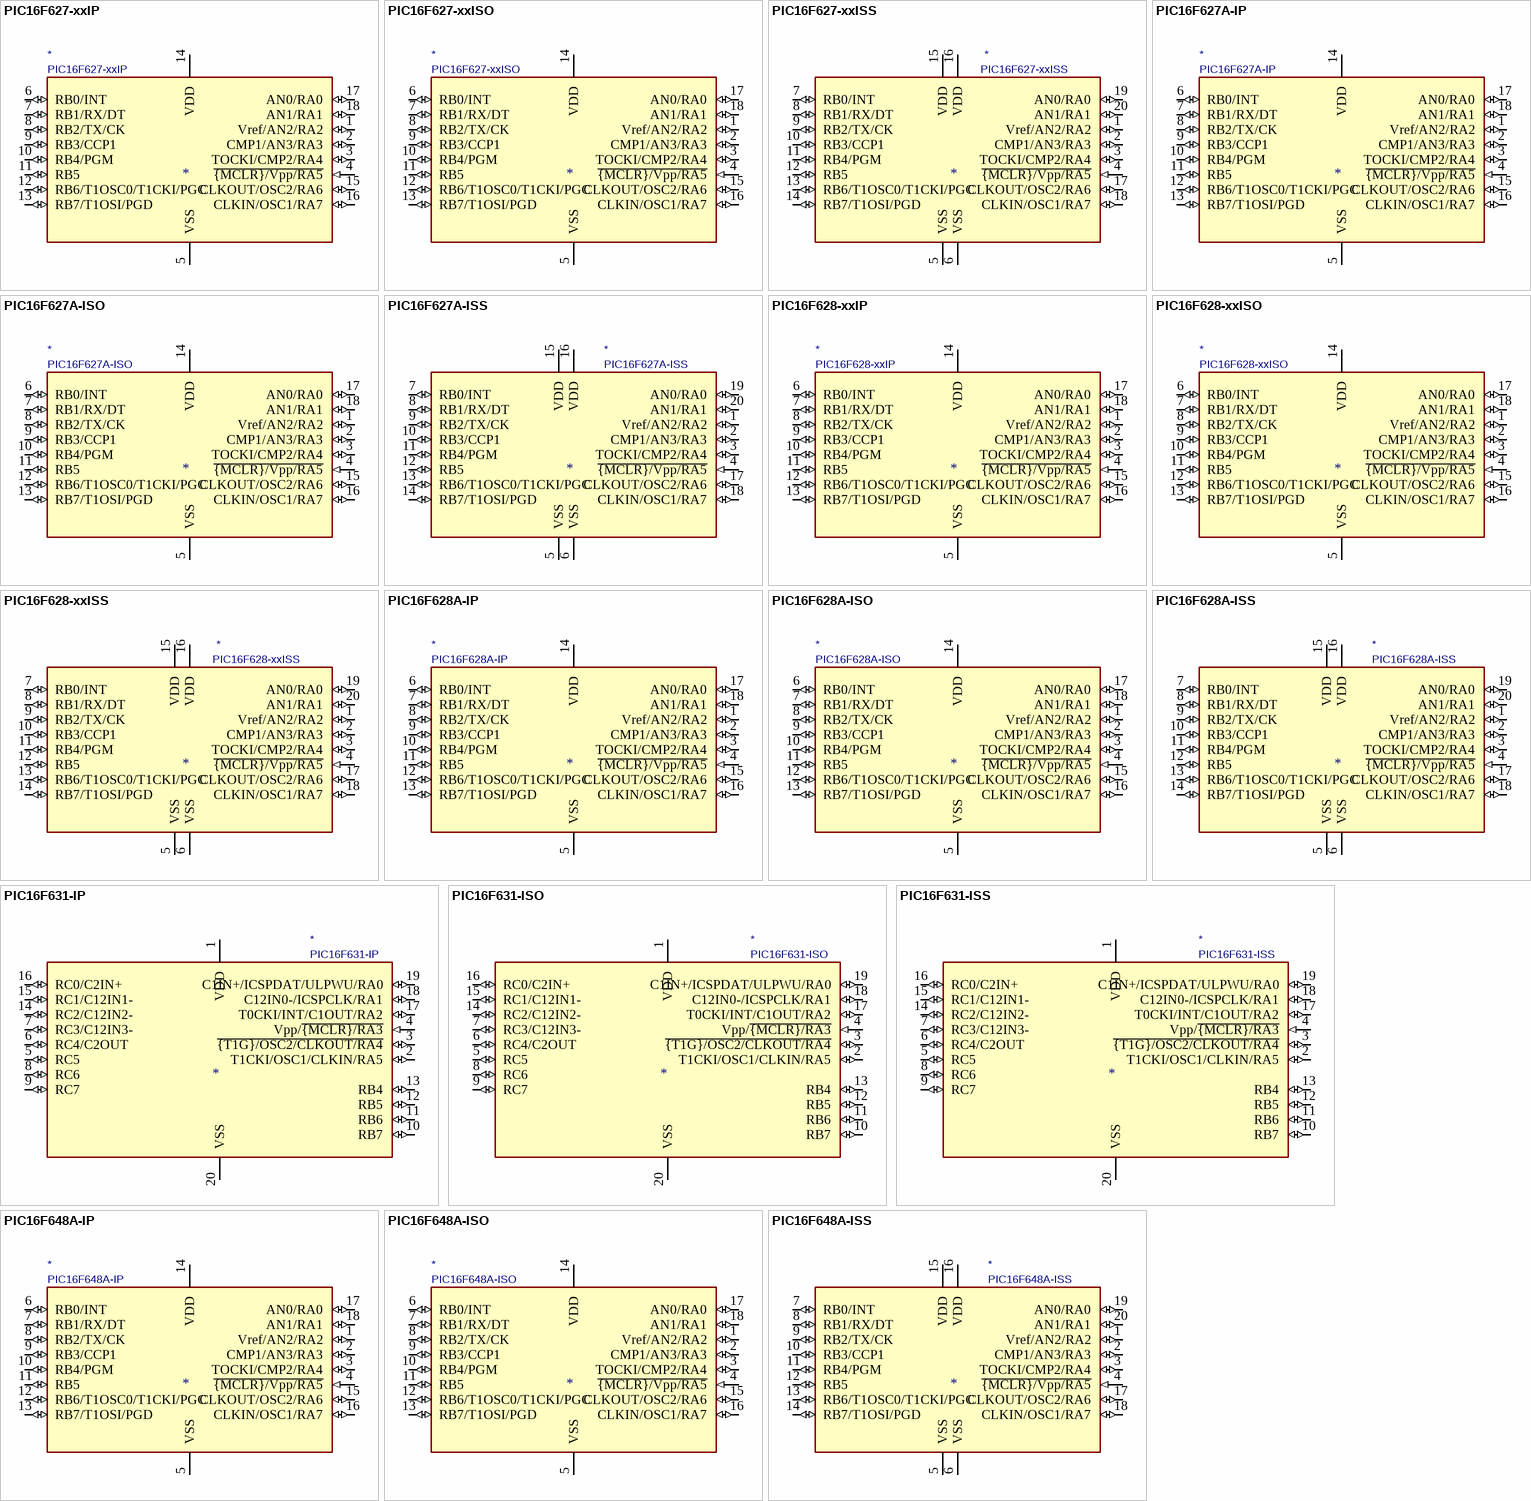
[diagram p2: symbols PIC16F627-xxIP to PIC16F648A-ISS]

## PIC16F627-xxIP
designator *  value PIC16F627-xxIP
ki_keywords: FLASH-Based 8-Bit CMOS Microcontroller; ki_description: 1024W Flash, 224B SRAM, 128B EEPROM, DIP18; ki_fp_filters: DIP* PDIP*; Supplier: http://ww1.microchip.com/downloads/en/DeviceDoc/40300c.pdf
pins: 1 Vref/AN2/RA2 (io), 2 CMP1/AN3/RA3 (io), 3 TOCKI/CMP2/RA4 (io), 4 ~{{MCLR}/Vpp/RA5} (in), 5 VSS (power), 6 RB0/INT (io), 7 RB1/RX/DT (io), 8 RB2/TX/CK (io), 9 RB3/CCP1 (io), 10 RB4/PGM (io), 11 RB5 (io), 12 RB6/T1OSC0/T1CKI/PGC (io), 13 RB7/T1OSI/PGD (io), 14 VDD (power), 15 CLKOUT/OSC2/RA6 (io), 16 CLKIN/OSC1/RA7 (io), 17 AN0/RA0 (io), 18 AN1/RA1 (io)

## PIC16F627-xxISO
designator *  value PIC16F627-xxISO
ki_keywords: FLASH-Based 8-Bit CMOS Microcontroller; ki_description: 1024W Flash, 224B SRAM, 128B EEPROM, SO18; ki_fp_filters: SO*; Supplier: http://ww1.microchip.com/downloads/en/DeviceDoc/40300c.pdf
pins: 1 Vref/AN2/RA2 (io), 2 CMP1/AN3/RA3 (io), 3 TOCKI/CMP2/RA4 (io), 4 ~{{MCLR}/Vpp/RA5} (in), 5 VSS (power), 6 RB0/INT (io), 7 RB1/RX/DT (io), 8 RB2/TX/CK (io), 9 RB3/CCP1 (io), 10 RB4/PGM (io), 11 RB5 (io), 12 RB6/T1OSC0/T1CKI/PGC (io), 13 RB7/T1OSI/PGD (io), 14 VDD (power), 15 CLKOUT/OSC2/RA6 (io), 16 CLKIN/OSC1/RA7 (io), 17 AN0/RA0 (io), 18 AN1/RA1 (io)

## PIC16F627-xxISS
designator *  value PIC16F627-xxISS
ki_keywords: FLASH-Based 8-Bit CMOS Microcontroller; ki_description: 1024W Flash, 224B SRAM, 128B EEPROM, SSOP20; ki_fp_filters: SSOP*; Supplier: http://ww1.microchip.com/downloads/en/DeviceDoc/40300c.pdf
pins: 1 Vref/AN2/RA2 (io), 2 CMP1/AN3/RA3 (io), 3 TOCKI/CMP2/RA4 (io), 4 ~{{MCLR}/Vpp/RA5} (in), 5 VSS (power), 6 VSS (power), 7 RB0/INT (io), 8 RB1/RX/DT (io), 9 RB2/TX/CK (io), 10 RB3/CCP1 (io), 11 RB4/PGM (io), 12 RB5 (io), 13 RB6/T1OSC0/T1CKI/PGC (io), 14 RB7/T1OSI/PGD (io), 15 VDD (power), 16 VDD (power), 17 CLKOUT/OSC2/RA6 (io), 18 CLKIN/OSC1/RA7 (io), 19 AN0/RA0 (io), 20 AN1/RA1 (io)

## PIC16F627A-IP
designator *  value PIC16F627A-IP
ki_keywords: FLASH-Based 8-Bit CMOS Microcontroller; ki_description: 1024W Flash, 224B SRAM, 128B EEPROM, DIP18; ki_fp_filters: DIP* PDIP*; Supplier: http://ww1.microchip.com/downloads/en/DeviceDoc/40300c.pdf
pins: 1 Vref/AN2/RA2 (io), 2 CMP1/AN3/RA3 (io), 3 TOCKI/CMP2/RA4 (io), 4 ~{{MCLR}/Vpp/RA5} (in), 5 VSS (power), 6 RB0/INT (io), 7 RB1/RX/DT (io), 8 RB2/TX/CK (io), 9 RB3/CCP1 (io), 10 RB4/PGM (io), 11 RB5 (io), 12 RB6/T1OSC0/T1CKI/PGC (io), 13 RB7/T1OSI/PGD (io), 14 VDD (power), 15 CLKOUT/OSC2/RA6 (io), 16 CLKIN/OSC1/RA7 (io), 17 AN0/RA0 (io), 18 AN1/RA1 (io)

## PIC16F627A-ISO
designator *  value PIC16F627A-ISO
ki_keywords: FLASH-Based 8-Bit CMOS Microcontroller; ki_description: PIC16F627A, 1024W Flash, 224B SRAM, 128B EEPROM, SO18; ki_fp_filters: SO*; Supplier: http://ww1.microchip.com/downloads/en/DeviceDoc/40300c.pdf
pins: 1 Vref/AN2/RA2 (io), 2 CMP1/AN3/RA3 (io), 3 TOCKI/CMP2/RA4 (io), 4 ~{{MCLR}/Vpp/RA5} (in), 5 VSS (power), 6 RB0/INT (io), 7 RB1/RX/DT (io), 8 RB2/TX/CK (io), 9 RB3/CCP1 (io), 10 RB4/PGM (io), 11 RB5 (io), 12 RB6/T1OSC0/T1CKI/PGC (io), 13 RB7/T1OSI/PGD (io), 14 VDD (power), 15 CLKOUT/OSC2/RA6 (io), 16 CLKIN/OSC1/RA7 (io), 17 AN0/RA0 (io), 18 AN1/RA1 (io)

## PIC16F627A-ISS
designator *  value PIC16F627A-ISS
ki_keywords: FLASH-Based 8-Bit CMOS Microcontroller; ki_description: PIC16F627A, 1024W Flash, 224B SRAM, 128B EEPROM, SSOP20; ki_fp_filters: SSOP*; Supplier: http://ww1.microchip.com/downloads/en/DeviceDoc/40044G.pdf
pins: 1 Vref/AN2/RA2 (io), 2 CMP1/AN3/RA3 (io), 3 TOCKI/CMP2/RA4 (io), 4 ~{{MCLR}/Vpp/RA5} (in), 5 VSS (power), 6 VSS (power), 7 RB0/INT (io), 8 RB1/RX/DT (io), 9 RB2/TX/CK (io), 10 RB3/CCP1 (io), 11 RB4/PGM (io), 12 RB5 (io), 13 RB6/T1OSC0/T1CKI/PGC (io), 14 RB7/T1OSI/PGD (io), 15 VDD (power), 16 VDD (power), 17 CLKOUT/OSC2/RA6 (io), 18 CLKIN/OSC1/RA7 (io), 19 AN0/RA0 (io), 20 AN1/RA1 (io)

## PIC16F628-xxIP
designator *  value PIC16F628-xxIP
ki_keywords: FLASH-Based 8-Bit CMOS Microcontroller; ki_description: 2048W Flash, 224B SRAM, 128B EEPROM, DIP18; ki_fp_filters: DIP* PDIP*; Supplier: http://ww1.microchip.com/downloads/en/DeviceDoc/40300c.pdf
pins: 1 Vref/AN2/RA2 (io), 2 CMP1/AN3/RA3 (io), 3 TOCKI/CMP2/RA4 (io), 4 ~{{MCLR}/Vpp/RA5} (in), 5 VSS (power), 6 RB0/INT (io), 7 RB1/RX/DT (io), 8 RB2/TX/CK (io), 9 RB3/CCP1 (io), 10 RB4/PGM (io), 11 RB5 (io), 12 RB6/T1OSC0/T1CKI/PGC (io), 13 RB7/T1OSI/PGD (io), 14 VDD (power), 15 CLKOUT/OSC2/RA6 (io), 16 CLKIN/OSC1/RA7 (io), 17 AN0/RA0 (io), 18 AN1/RA1 (io)

## PIC16F628-xxISO
designator *  value PIC16F628-xxISO
ki_keywords: FLASH-Based 8-Bit CMOS Microcontroller; ki_description: 2048W Flash, 224B SRAM, 128B EEPROM, SO18; ki_fp_filters: SO*; Supplier: http://ww1.microchip.com/downloads/en/DeviceDoc/40300c.pdf
pins: 1 Vref/AN2/RA2 (io), 2 CMP1/AN3/RA3 (io), 3 TOCKI/CMP2/RA4 (io), 4 ~{{MCLR}/Vpp/RA5} (in), 5 VSS (power), 6 RB0/INT (io), 7 RB1/RX/DT (io), 8 RB2/TX/CK (io), 9 RB3/CCP1 (io), 10 RB4/PGM (io), 11 RB5 (io), 12 RB6/T1OSC0/T1CKI/PGC (io), 13 RB7/T1OSI/PGD (io), 14 VDD (power), 15 CLKOUT/OSC2/RA6 (io), 16 CLKIN/OSC1/RA7 (io), 17 AN0/RA0 (io), 18 AN1/RA1 (io)

## PIC16F628-xxISS
designator *  value PIC16F628-xxISS
ki_keywords: FLASH-Based 8-Bit CMOS Microcontroller; ki_description: 2048W Flash, 224B SRAM, 128B EEPROM, SSOP20; ki_fp_filters: SSOP*; Supplier: http://ww1.microchip.com/downloads/en/DeviceDoc/40300c.pdf
pins: 1 Vref/AN2/RA2 (io), 2 CMP1/AN3/RA3 (io), 3 TOCKI/CMP2/RA4 (io), 4 ~{{MCLR}/Vpp/RA5} (in), 5 VSS (power), 6 VSS (power), 7 RB0/INT (io), 8 RB1/RX/DT (io), 9 RB2/TX/CK (io), 10 RB3/CCP1 (io), 11 RB4/PGM (io), 12 RB5 (io), 13 RB6/T1OSC0/T1CKI/PGC (io), 14 RB7/T1OSI/PGD (io), 15 VDD (power), 16 VDD (power), 17 CLKOUT/OSC2/RA6 (io), 18 CLKIN/OSC1/RA7 (io), 19 AN0/RA0 (io), 20 AN1/RA1 (io)

## PIC16F628A-IP
designator *  value PIC16F628A-IP
ki_keywords: FLASH-Based 8-Bit CMOS Microcontroller; ki_description: 2048W Flash, 224B SRAM, 128B EEPROM, DIP18; ki_fp_filters: DIP* PDIP*; Supplier: http://ww1.microchip.com/downloads/en/DeviceDoc/40300c.pdf
pins: 1 Vref/AN2/RA2 (io), 2 CMP1/AN3/RA3 (io), 3 TOCKI/CMP2/RA4 (io), 4 ~{{MCLR}/Vpp/RA5} (in), 5 VSS (power), 6 RB0/INT (io), 7 RB1/RX/DT (io), 8 RB2/TX/CK (io), 9 RB3/CCP1 (io), 10 RB4/PGM (io), 11 RB5 (io), 12 RB6/T1OSC0/T1CKI/PGC (io), 13 RB7/T1OSI/PGD (io), 14 VDD (power), 15 CLKOUT/OSC2/RA6 (io), 16 CLKIN/OSC1/RA7 (io), 17 AN0/RA0 (io), 18 AN1/RA1 (io)

## PIC16F628A-ISO
designator *  value PIC16F628A-ISO
ki_keywords: FLASH-Based 8-Bit CMOS Microcontroller; ki_description: PIC16F628A, 2048W Flash, 224B SRAM, 128B EEPROM, SO18; ki_fp_filters: SO*; Supplier: http://ww1.microchip.com/downloads/en/DeviceDoc/40300c.pdf
pins: 1 Vref/AN2/RA2 (io), 2 CMP1/AN3/RA3 (io), 3 TOCKI/CMP2/RA4 (io), 4 ~{{MCLR}/Vpp/RA5} (in), 5 VSS (power), 6 RB0/INT (io), 7 RB1/RX/DT (io), 8 RB2/TX/CK (io), 9 RB3/CCP1 (io), 10 RB4/PGM (io), 11 RB5 (io), 12 RB6/T1OSC0/T1CKI/PGC (io), 13 RB7/T1OSI/PGD (io), 14 VDD (power), 15 CLKOUT/OSC2/RA6 (io), 16 CLKIN/OSC1/RA7 (io), 17 AN0/RA0 (io), 18 AN1/RA1 (io)

## PIC16F628A-ISS
designator *  value PIC16F628A-ISS
ki_keywords: FLASH-Based 8-Bit CMOS Microcontroller; ki_description: PIC16F628A, 2048W Flash, 224B SRAM, 128B EEPROM, SSOP20; ki_fp_filters: SSOP*; Supplier: http://ww1.microchip.com/downloads/en/DeviceDoc/40044G.pdf
pins: 1 Vref/AN2/RA2 (io), 2 CMP1/AN3/RA3 (io), 3 TOCKI/CMP2/RA4 (io), 4 ~{{MCLR}/Vpp/RA5} (in), 5 VSS (power), 6 VSS (power), 7 RB0/INT (io), 8 RB1/RX/DT (io), 9 RB2/TX/CK (io), 10 RB3/CCP1 (io), 11 RB4/PGM (io), 12 RB5 (io), 13 RB6/T1OSC0/T1CKI/PGC (io), 14 RB7/T1OSI/PGD (io), 15 VDD (power), 16 VDD (power), 17 CLKOUT/OSC2/RA6 (io), 18 CLKIN/OSC1/RA7 (io), 19 AN0/RA0 (io), 20 AN1/RA1 (io)

## PIC16F631-IP
designator *  value PIC16F631-IP
ki_keywords: Flash-Based 8-Bit CMOS Microcontroller nanoWatt; ki_description: 1024W Flash, 64B SRAM, 128B EEPROM, DIP20; ki_fp_filters: DIP* PDIP*; Supplier: http://ww1.microchip.com/downloads/en/DeviceDoc/41262E.pdf
pins: 1 VDD (power), 2 T1CKI/OSC1/CLKIN/RA5 (io), 3 ~{{T1G}/OSC2/CLKOUT/RA4} (io), 4 Vpp/~{{MCLR}/RA3} (in), 5 RC5 (io), 6 RC4/C2OUT (io), 7 RC3/C12IN3- (io), 8 RC6 (io), 9 RC7 (io), 10 RB7 (io), 11 RB6 (io), 12 RB5 (io), 13 RB4 (io), 14 RC2/C12IN2- (io), 15 RC1/C12IN1- (io), 16 RC0/C2IN+ (io), 17 T0CKI/INT/C1OUT/RA2 (io), 18 C12IN0-/ICSPCLK/RA1 (io), 19 C1IN+/ICSPDAT/ULPWU/RA0 (io), 20 VSS (power)

## PIC16F631-ISO
designator *  value PIC16F631-ISO
ki_keywords: Flash-Based 8-Bit CMOS Microcontroller nanoWatt; ki_description: PIC16F631, 1024W Flash, 64B SRAM, 128B EEPROM, SO20; ki_fp_filters: SO*; Supplier: http://ww1.microchip.com/downloads/en/DeviceDoc/41262E.pdf
pins: 1 VDD (power), 2 T1CKI/OSC1/CLKIN/RA5 (io), 3 ~{{T1G}/OSC2/CLKOUT/RA4} (io), 4 Vpp/~{{MCLR}/RA3} (in), 5 RC5 (io), 6 RC4/C2OUT (io), 7 RC3/C12IN3- (io), 8 RC6 (io), 9 RC7 (io), 10 RB7 (io), 11 RB6 (io), 12 RB5 (io), 13 RB4 (io), 14 RC2/C12IN2- (io), 15 RC1/C12IN1- (io), 16 RC0/C2IN+ (io), 17 T0CKI/INT/C1OUT/RA2 (io), 18 C12IN0-/ICSPCLK/RA1 (io), 19 C1IN+/ICSPDAT/ULPWU/RA0 (io), 20 VSS (power)

## PIC16F631-ISS
designator *  value PIC16F631-ISS
ki_keywords: Flash-Based 8-Bit CMOS Microcontroller nanoWatt; ki_description: PIC16F631, 1024W Flash, 64B SRAM, 128B EEPROM, SSOP20; ki_fp_filters: SSOP*; Supplier: http://ww1.microchip.com/downloads/en/DeviceDoc/41262E.pdf
pins: 1 VDD (power), 2 T1CKI/OSC1/CLKIN/RA5 (io), 3 ~{{T1G}/OSC2/CLKOUT/RA4} (io), 4 Vpp/~{{MCLR}/RA3} (in), 5 RC5 (io), 6 RC4/C2OUT (io), 7 RC3/C12IN3- (io), 8 RC6 (io), 9 RC7 (io), 10 RB7 (io), 11 RB6 (io), 12 RB5 (io), 13 RB4 (io), 14 RC2/C12IN2- (io), 15 RC1/C12IN1- (io), 16 RC0/C2IN+ (io), 17 T0CKI/INT/C1OUT/RA2 (io), 18 C12IN0-/ICSPCLK/RA1 (io), 19 C1IN+/ICSPDAT/ULPWU/RA0 (io), 20 VSS (power)

## PIC16F648A-IP
designator *  value PIC16F648A-IP
ki_keywords: FLASH-Based 8-Bit CMOS Microcontroller; ki_description: 4096W Flash, 256B SRAM, 256B EEPROM, DIP18; ki_fp_filters: DIP* PDIP*; Supplier: http://ww1.microchip.com/downloads/en/DeviceDoc/40300c.pdf
pins: 1 Vref/AN2/RA2 (io), 2 CMP1/AN3/RA3 (io), 3 TOCKI/CMP2/RA4 (io), 4 ~{{MCLR}/Vpp/RA5} (in), 5 VSS (power), 6 RB0/INT (io), 7 RB1/RX/DT (io), 8 RB2/TX/CK (io), 9 RB3/CCP1 (io), 10 RB4/PGM (io), 11 RB5 (io), 12 RB6/T1OSC0/T1CKI/PGC (io), 13 RB7/T1OSI/PGD (io), 14 VDD (power), 15 CLKOUT/OSC2/RA6 (io), 16 CLKIN/OSC1/RA7 (io), 17 AN0/RA0 (io), 18 AN1/RA1 (io)

## PIC16F648A-ISO
designator *  value PIC16F648A-ISO
ki_keywords: FLASH-Based 8-Bit CMOS Microcontroller; ki_description: PIC16F648A, 4096W Flash, 256B SRAM, 256B EEPROM, SO18; ki_fp_filters: SO*; Supplier: http://ww1.microchip.com/downloads/en/DeviceDoc/40300c.pdf
pins: 1 Vref/AN2/RA2 (io), 2 CMP1/AN3/RA3 (io), 3 TOCKI/CMP2/RA4 (io), 4 ~{{MCLR}/Vpp/RA5} (in), 5 VSS (power), 6 RB0/INT (io), 7 RB1/RX/DT (io), 8 RB2/TX/CK (io), 9 RB3/CCP1 (io), 10 RB4/PGM (io), 11 RB5 (io), 12 RB6/T1OSC0/T1CKI/PGC (io), 13 RB7/T1OSI/PGD (io), 14 VDD (power), 15 CLKOUT/OSC2/RA6 (io), 16 CLKIN/OSC1/RA7 (io), 17 AN0/RA0 (io), 18 AN1/RA1 (io)

## PIC16F648A-ISS
designator *  value PIC16F648A-ISS
ki_keywords: FLASH-Based 8-Bit CMOS Microcontroller; ki_description: PIC16F648A, 4096W Flash, 256B SRAM, 256B EEPROM, SSOP20; ki_fp_filters: SSOP*; Supplier: http://ww1.microchip.com/downloads/en/DeviceDoc/40044G.pdf
pins: 1 Vref/AN2/RA2 (io), 2 CMP1/AN3/RA3 (io), 3 TOCKI/CMP2/RA4 (io), 4 ~{{MCLR}/Vpp/RA5} (in), 5 VSS (power), 6 VSS (power), 7 RB0/INT (io), 8 RB1/RX/DT (io), 9 RB2/TX/CK (io), 10 RB3/CCP1 (io), 11 RB4/PGM (io), 12 RB5 (io), 13 RB6/T1OSC0/T1CKI/PGC (io), 14 RB7/T1OSI/PGD (io), 15 VDD (power), 16 VDD (power), 17 CLKOUT/OSC2/RA6 (io), 18 CLKIN/OSC1/RA7 (io), 19 AN0/RA0 (io), 20 AN1/RA1 (io)

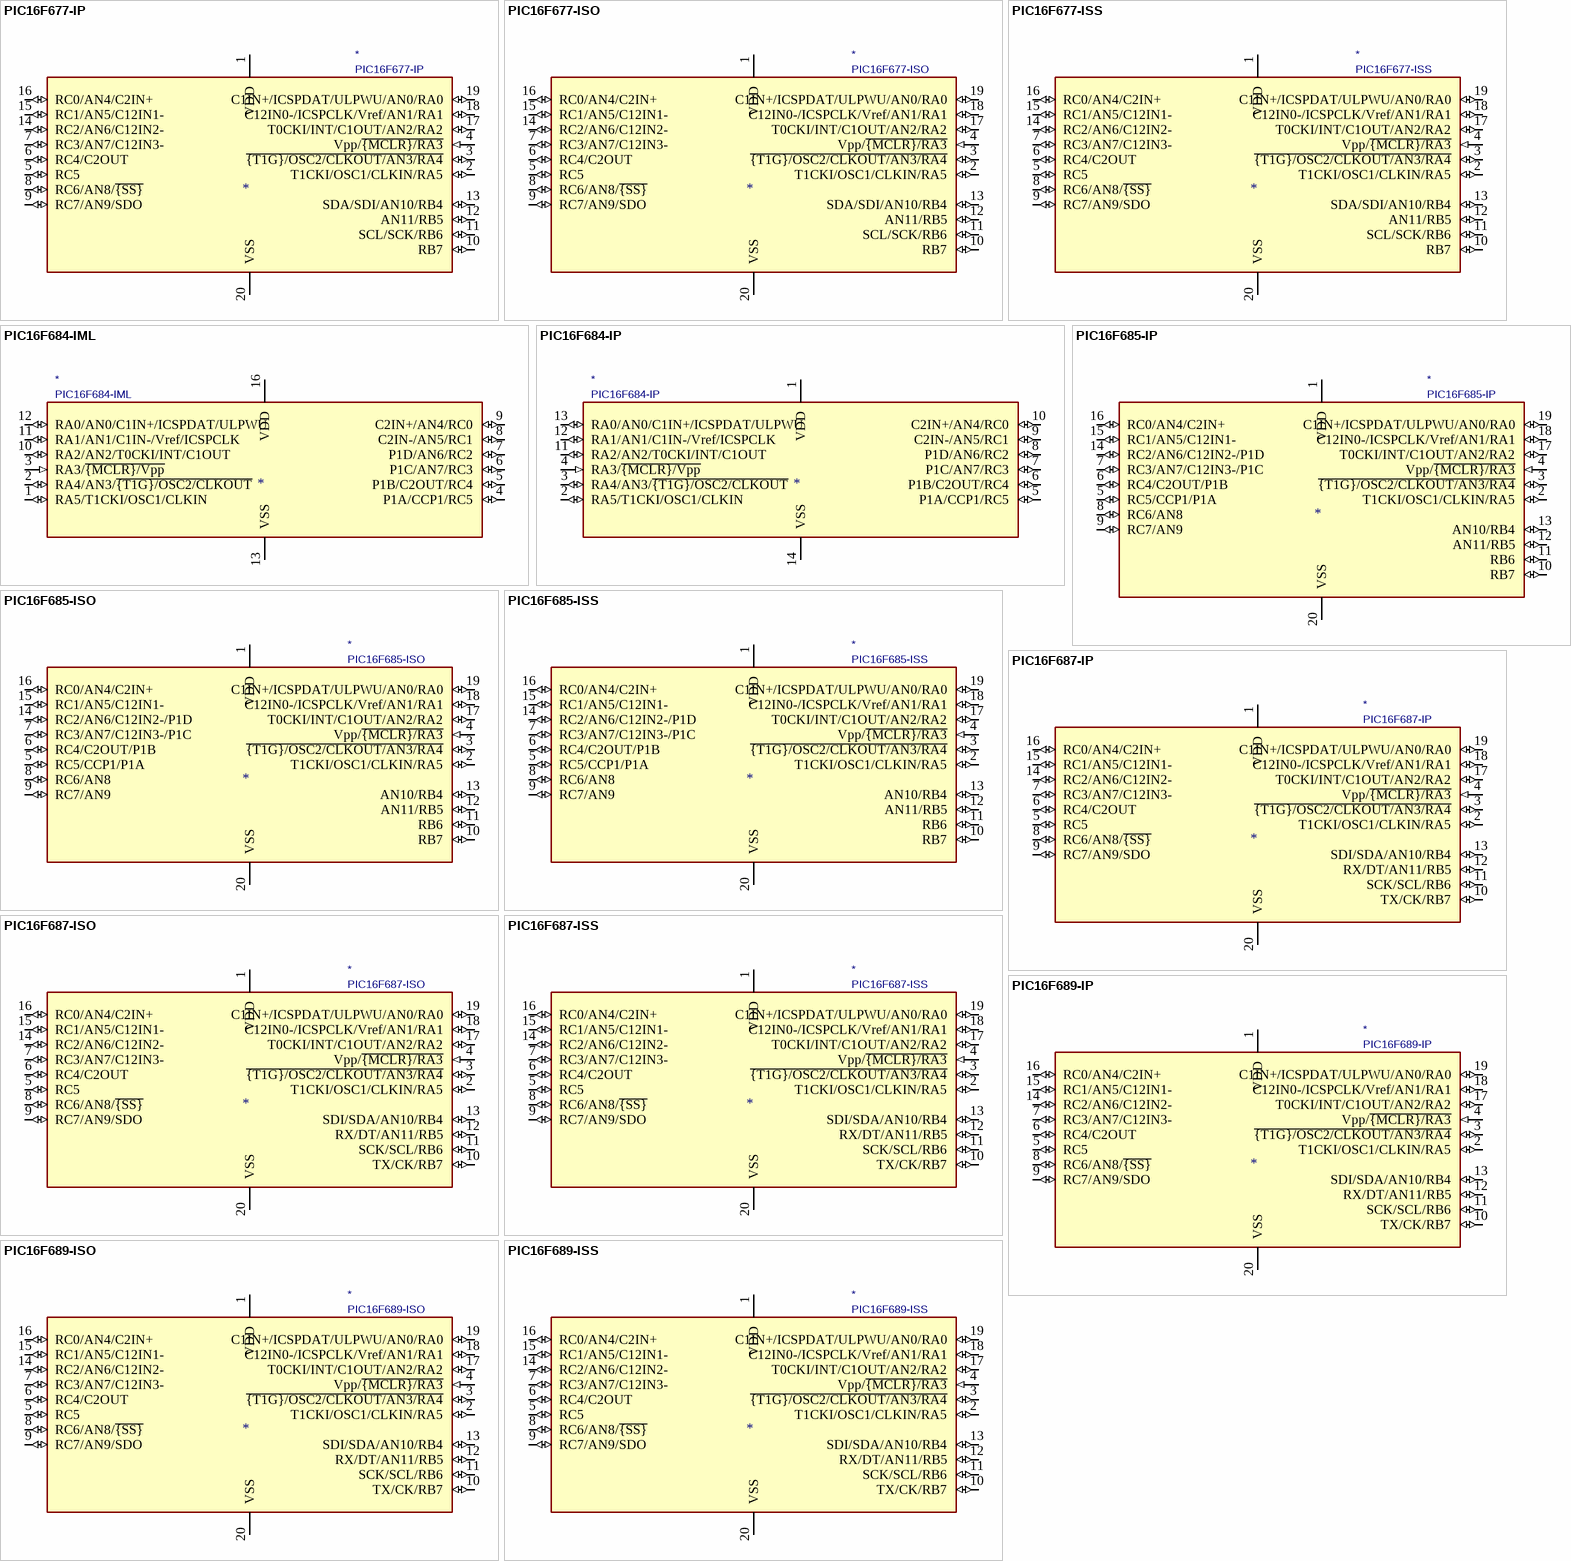
[diagram p3: symbols PIC16F677-IP to PIC16F689-ISS]

## PIC16F677-IP
designator *  value PIC16F677-IP
ki_keywords: Flash-Based 8-Bit CMOS Microcontroller nanoWatt; ki_description: 2048W Flash, 128B SRAM, 128B EEPROM, DIP20; ki_fp_filters: DIP* PDIP*; Supplier: http://ww1.microchip.com/downloads/en/DeviceDoc/41262E.pdf
pins: 1 VDD (power), 2 T1CKI/OSC1/CLKIN/RA5 (io), 3 ~{{T1G}/OSC2/CLKOUT/AN3/RA4} (io), 4 Vpp/~{{MCLR}/RA3} (in), 5 RC5 (io), 6 RC4/C2OUT (io), 7 RC3/AN7/C12IN3- (io), 8 RC6/AN8/~{{SS}} (io), 9 RC7/AN9/SDO (io), 10 RB7 (io), 11 SCL/SCK/RB6 (io), 12 AN11/RB5 (io), 13 SDA/SDI/AN10/RB4 (io), 14 RC2/AN6/C12IN2- (io), 15 RC1/AN5/C12IN1- (io), 16 RC0/AN4/C2IN+ (io), 17 T0CKI/INT/C1OUT/AN2/RA2 (io), 18 C12IN0-/ICSPCLK/Vref/AN1/RA1 (io), 19 C1IN+/ICSPDAT/ULPWU/AN0/RA0 (io), 20 VSS (power)

## PIC16F677-ISO
designator *  value PIC16F677-ISO
ki_keywords: Flash-Based 8-Bit CMOS Microcontroller nanoWatt; ki_description: PIC16F677, 2048W Flash, 128B SRAM, 128B EEPROM, SO20; ki_fp_filters: SO*; Supplier: http://ww1.microchip.com/downloads/en/DeviceDoc/41262E.pdf
pins: 1 VDD (power), 2 T1CKI/OSC1/CLKIN/RA5 (io), 3 ~{{T1G}/OSC2/CLKOUT/AN3/RA4} (io), 4 Vpp/~{{MCLR}/RA3} (in), 5 RC5 (io), 6 RC4/C2OUT (io), 7 RC3/AN7/C12IN3- (io), 8 RC6/AN8/~{{SS}} (io), 9 RC7/AN9/SDO (io), 10 RB7 (io), 11 SCL/SCK/RB6 (io), 12 AN11/RB5 (io), 13 SDA/SDI/AN10/RB4 (io), 14 RC2/AN6/C12IN2- (io), 15 RC1/AN5/C12IN1- (io), 16 RC0/AN4/C2IN+ (io), 17 T0CKI/INT/C1OUT/AN2/RA2 (io), 18 C12IN0-/ICSPCLK/Vref/AN1/RA1 (io), 19 C1IN+/ICSPDAT/ULPWU/AN0/RA0 (io), 20 VSS (power)

## PIC16F677-ISS
designator *  value PIC16F677-ISS
ki_keywords: Flash-Based 8-Bit CMOS Microcontroller nanoWatt; ki_description: PIC16F677, 2048W Flash, 128B SRAM, 128B EEPROM, SSOP20; ki_fp_filters: SSOP*; Supplier: http://ww1.microchip.com/downloads/en/DeviceDoc/41262E.pdf
pins: 1 VDD (power), 2 T1CKI/OSC1/CLKIN/RA5 (io), 3 ~{{T1G}/OSC2/CLKOUT/AN3/RA4} (io), 4 Vpp/~{{MCLR}/RA3} (in), 5 RC5 (io), 6 RC4/C2OUT (io), 7 RC3/AN7/C12IN3- (io), 8 RC6/AN8/~{{SS}} (io), 9 RC7/AN9/SDO (io), 10 RB7 (io), 11 SCL/SCK/RB6 (io), 12 AN11/RB5 (io), 13 SDA/SDI/AN10/RB4 (io), 14 RC2/AN6/C12IN2- (io), 15 RC1/AN5/C12IN1- (io), 16 RC0/AN4/C2IN+ (io), 17 T0CKI/INT/C1OUT/AN2/RA2 (io), 18 C12IN0-/ICSPCLK/Vref/AN1/RA1 (io), 19 C1IN+/ICSPDAT/ULPWU/AN0/RA0 (io), 20 VSS (power)

## PIC16F684-IML
designator *  value PIC16F684-IML
ki_keywords: FLASH-Based 8-Bit CMOS Microcontroller Low Power; ki_description: PIC16F684 , 2048W FLASH, 128B SRAM, 256B EEPROM, QFN-16; ki_fp_filters: QFN*; Supplier: http://ww1.microchip.com/downloads/en/DeviceDoc/41202F-print.pdf
pins: 1 RA5/T1CKI/OSC1/CLKIN (io), 2 RA4/AN3/~{{T1G}/OSC2/CLKOUT} (io), 3 RA3/~{{MCLR}/Vpp} (in), 4 P1A/CCP1/RC5 (io), 5 P1B/C2OUT/RC4 (io), 6 P1C/AN7/RC3 (io), 7 P1D/AN6/RC2 (io), 8 C2IN-/AN5/RC1 (io), 9 C2IN+/AN4/RC0 (io), 10 RA2/AN2/T0CKI/INT/C1OUT (io), 11 RA1/AN1/C1IN-/Vref/ICSPCLK (io), 12 RA0/AN0/C1IN+/ICSPDAT/ULPWU (io), 13 VSS (power), 16 VDD (power)

## PIC16F684-IP
designator *  value PIC16F684-IP
ki_keywords: FLASH-Based 8-Bit CMOS Microcontroller Low Power; ki_description: 2048W FLASH, 128B SRAM, 256B EEPROM, PDIP-14; ki_fp_filters: DIP* PDIP* SO*; Supplier: http://ww1.microchip.com/downloads/en/DeviceDoc/41202F-print.pdf
pins: 1 VDD (power), 2 RA5/T1CKI/OSC1/CLKIN (io), 3 RA4/AN3/~{{T1G}/OSC2/CLKOUT} (io), 4 RA3/~{{MCLR}/Vpp} (in), 5 P1A/CCP1/RC5 (io), 6 P1B/C2OUT/RC4 (io), 7 P1C/AN7/RC3 (io), 8 P1D/AN6/RC2 (io), 9 C2IN-/AN5/RC1 (io), 10 C2IN+/AN4/RC0 (io), 11 RA2/AN2/T0CKI/INT/C1OUT (io), 12 RA1/AN1/C1IN-/Vref/ICSPCLK (io), 13 RA0/AN0/C1IN+/ICSPDAT/ULPWU (io), 14 VSS (power)

## PIC16F685-IP
designator *  value PIC16F685-IP
ki_keywords: Flash-Based 8-Bit CMOS Microcontroller nanoWatt; ki_description: 4096W Flash, 256B SRAM, 256B EEPROM, DIP20; ki_fp_filters: DIP* PDIP*; Supplier: http://ww1.microchip.com/downloads/en/DeviceDoc/41262E.pdf
pins: 1 VDD (power), 2 T1CKI/OSC1/CLKIN/RA5 (io), 3 ~{{T1G}/OSC2/CLKOUT/AN3/RA4} (io), 4 Vpp/~{{MCLR}/RA3} (in), 5 RC5/CCP1/P1A (io), 6 RC4/C2OUT/P1B (io), 7 RC3/AN7/C12IN3-/P1C (io), 8 RC6/AN8 (io), 9 RC7/AN9 (io), 10 RB7 (io), 11 RB6 (io), 12 AN11/RB5 (io), 13 AN10/RB4 (io), 14 RC2/AN6/C12IN2-/P1D (io), 15 RC1/AN5/C12IN1- (io), 16 RC0/AN4/C2IN+ (io), 17 T0CKI/INT/C1OUT/AN2/RA2 (io), 18 C12IN0-/ICSPCLK/Vref/AN1/RA1 (io), 19 C1IN+/ICSPDAT/ULPWU/AN0/RA0 (io), 20 VSS (power)

## PIC16F685-ISO
designator *  value PIC16F685-ISO
ki_keywords: Flash-Based 8-Bit CMOS Microcontroller nanoWatt; ki_description: PIC16F685, 4096W Flash, 256B SRAM, 256B EEPROM, SO20; ki_fp_filters: SO*; Supplier: http://ww1.microchip.com/downloads/en/DeviceDoc/41262E.pdf
pins: 1 VDD (power), 2 T1CKI/OSC1/CLKIN/RA5 (io), 3 ~{{T1G}/OSC2/CLKOUT/AN3/RA4} (io), 4 Vpp/~{{MCLR}/RA3} (in), 5 RC5/CCP1/P1A (io), 6 RC4/C2OUT/P1B (io), 7 RC3/AN7/C12IN3-/P1C (io), 8 RC6/AN8 (io), 9 RC7/AN9 (io), 10 RB7 (io), 11 RB6 (io), 12 AN11/RB5 (io), 13 AN10/RB4 (io), 14 RC2/AN6/C12IN2-/P1D (io), 15 RC1/AN5/C12IN1- (io), 16 RC0/AN4/C2IN+ (io), 17 T0CKI/INT/C1OUT/AN2/RA2 (io), 18 C12IN0-/ICSPCLK/Vref/AN1/RA1 (io), 19 C1IN+/ICSPDAT/ULPWU/AN0/RA0 (io), 20 VSS (power)

## PIC16F685-ISS
designator *  value PIC16F685-ISS
ki_keywords: Flash-Based 8-Bit CMOS Microcontroller nanoWatt; ki_description: PIC16F685, 4096W Flash, 256B SRAM, 256B EEPROM, SSOP20; ki_fp_filters: SO*; Supplier: http://ww1.microchip.com/downloads/en/DeviceDoc/41262E.pdf
pins: 1 VDD (power), 2 T1CKI/OSC1/CLKIN/RA5 (io), 3 ~{{T1G}/OSC2/CLKOUT/AN3/RA4} (io), 4 Vpp/~{{MCLR}/RA3} (in), 5 RC5/CCP1/P1A (io), 6 RC4/C2OUT/P1B (io), 7 RC3/AN7/C12IN3-/P1C (io), 8 RC6/AN8 (io), 9 RC7/AN9 (io), 10 RB7 (io), 11 RB6 (io), 12 AN11/RB5 (io), 13 AN10/RB4 (io), 14 RC2/AN6/C12IN2-/P1D (io), 15 RC1/AN5/C12IN1- (io), 16 RC0/AN4/C2IN+ (io), 17 T0CKI/INT/C1OUT/AN2/RA2 (io), 18 C12IN0-/ICSPCLK/Vref/AN1/RA1 (io), 19 C1IN+/ICSPDAT/ULPWU/AN0/RA0 (io), 20 VSS (power)

## PIC16F687-IP
designator *  value PIC16F687-IP
ki_keywords: Flash-Based 8-Bit CMOS Microcontroller nanoWatt; ki_description: 2048W Flash, 128B SRAM, 256B EEPROM, DIP20; ki_fp_filters: DIP* PDIP*; Supplier: http://ww1.microchip.com/downloads/en/DeviceDoc/41262E.pdf
pins: 1 VDD (power), 2 T1CKI/OSC1/CLKIN/RA5 (io), 3 ~{{T1G}/OSC2/CLKOUT/AN3/RA4} (io), 4 Vpp/~{{MCLR}/RA3} (in), 5 RC5 (io), 6 RC4/C2OUT (io), 7 RC3/AN7/C12IN3- (io), 8 RC6/AN8/~{{SS}} (io), 9 RC7/AN9/SDO (io), 10 TX/CK/RB7 (io), 11 SCK/SCL/RB6 (io), 12 RX/DT/AN11/RB5 (io), 13 SDI/SDA/AN10/RB4 (io), 14 RC2/AN6/C12IN2- (io), 15 RC1/AN5/C12IN1- (io), 16 RC0/AN4/C2IN+ (io), 17 T0CKI/INT/C1OUT/AN2/RA2 (io), 18 C12IN0-/ICSPCLK/Vref/AN1/RA1 (io), 19 C1IN+/ICSPDAT/ULPWU/AN0/RA0 (io), 20 VSS (power)

## PIC16F687-ISO
designator *  value PIC16F687-ISO
ki_keywords: Flash-Based 8-Bit CMOS Microcontroller nanoWatt; ki_description: PIC16F687, 2048W Flash, 128B SRAM, 256B EEPROM, SO20; ki_fp_filters: SO*; Supplier: http://ww1.microchip.com/downloads/en/DeviceDoc/41262E.pdf
pins: 1 VDD (power), 2 T1CKI/OSC1/CLKIN/RA5 (io), 3 ~{{T1G}/OSC2/CLKOUT/AN3/RA4} (io), 4 Vpp/~{{MCLR}/RA3} (in), 5 RC5 (io), 6 RC4/C2OUT (io), 7 RC3/AN7/C12IN3- (io), 8 RC6/AN8/~{{SS}} (io), 9 RC7/AN9/SDO (io), 10 TX/CK/RB7 (io), 11 SCK/SCL/RB6 (io), 12 RX/DT/AN11/RB5 (io), 13 SDI/SDA/AN10/RB4 (io), 14 RC2/AN6/C12IN2- (io), 15 RC1/AN5/C12IN1- (io), 16 RC0/AN4/C2IN+ (io), 17 T0CKI/INT/C1OUT/AN2/RA2 (io), 18 C12IN0-/ICSPCLK/Vref/AN1/RA1 (io), 19 C1IN+/ICSPDAT/ULPWU/AN0/RA0 (io), 20 VSS (power)

## PIC16F687-ISS
designator *  value PIC16F687-ISS
ki_keywords: Flash-Based 8-Bit CMOS Microcontroller nanoWatt; ki_description: PIC16F687, 2048W Flash, 128B SRAM, 256B EEPROM, SSOP20; ki_fp_filters: SSOP*; Supplier: http://ww1.microchip.com/downloads/en/DeviceDoc/41262E.pdf
pins: 1 VDD (power), 2 T1CKI/OSC1/CLKIN/RA5 (io), 3 ~{{T1G}/OSC2/CLKOUT/AN3/RA4} (io), 4 Vpp/~{{MCLR}/RA3} (in), 5 RC5 (io), 6 RC4/C2OUT (io), 7 RC3/AN7/C12IN3- (io), 8 RC6/AN8/~{{SS}} (io), 9 RC7/AN9/SDO (io), 10 TX/CK/RB7 (io), 11 SCK/SCL/RB6 (io), 12 RX/DT/AN11/RB5 (io), 13 SDI/SDA/AN10/RB4 (io), 14 RC2/AN6/C12IN2- (io), 15 RC1/AN5/C12IN1- (io), 16 RC0/AN4/C2IN+ (io), 17 T0CKI/INT/C1OUT/AN2/RA2 (io), 18 C12IN0-/ICSPCLK/Vref/AN1/RA1 (io), 19 C1IN+/ICSPDAT/ULPWU/AN0/RA0 (io), 20 VSS (power)

## PIC16F689-IP
designator *  value PIC16F689-IP
ki_keywords: Flash-Based 8-Bit CMOS Microcontroller nanoWatt; ki_description: 4096W Flash, 256B SRAM, 256B EEPROM, DIP20; ki_fp_filters: DIP* PDIP*; Supplier: http://ww1.microchip.com/downloads/en/DeviceDoc/41262E.pdf
pins: 1 VDD (power), 2 T1CKI/OSC1/CLKIN/RA5 (io), 3 ~{{T1G}/OSC2/CLKOUT/AN3/RA4} (io), 4 Vpp/~{{MCLR}/RA3} (in), 5 RC5 (io), 6 RC4/C2OUT (io), 7 RC3/AN7/C12IN3- (io), 8 RC6/AN8/~{{SS}} (io), 9 RC7/AN9/SDO (io), 10 TX/CK/RB7 (io), 11 SCK/SCL/RB6 (io), 12 RX/DT/AN11/RB5 (io), 13 SDI/SDA/AN10/RB4 (io), 14 RC2/AN6/C12IN2- (io), 15 RC1/AN5/C12IN1- (io), 16 RC0/AN4/C2IN+ (io), 17 T0CKI/INT/C1OUT/AN2/RA2 (io), 18 C12IN0-/ICSPCLK/Vref/AN1/RA1 (io), 19 C1IN+/ICSPDAT/ULPWU/AN0/RA0 (io), 20 VSS (power)

## PIC16F689-ISO
designator *  value PIC16F689-ISO
ki_keywords: Flash-Based 8-Bit CMOS Microcontroller nanoWatt; ki_description: PIC16F689, 4096W Flash, 256B SRAM, 256B EEPROM, SO20; ki_fp_filters: SO*; Supplier: http://ww1.microchip.com/downloads/en/DeviceDoc/41262E.pdf
pins: 1 VDD (power), 2 T1CKI/OSC1/CLKIN/RA5 (io), 3 ~{{T1G}/OSC2/CLKOUT/AN3/RA4} (io), 4 Vpp/~{{MCLR}/RA3} (in), 5 RC5 (io), 6 RC4/C2OUT (io), 7 RC3/AN7/C12IN3- (io), 8 RC6/AN8/~{{SS}} (io), 9 RC7/AN9/SDO (io), 10 TX/CK/RB7 (io), 11 SCK/SCL/RB6 (io), 12 RX/DT/AN11/RB5 (io), 13 SDI/SDA/AN10/RB4 (io), 14 RC2/AN6/C12IN2- (io), 15 RC1/AN5/C12IN1- (io), 16 RC0/AN4/C2IN+ (io), 17 T0CKI/INT/C1OUT/AN2/RA2 (io), 18 C12IN0-/ICSPCLK/Vref/AN1/RA1 (io), 19 C1IN+/ICSPDAT/ULPWU/AN0/RA0 (io), 20 VSS (power)

## PIC16F689-ISS
designator *  value PIC16F689-ISS
ki_keywords: Flash-Based 8-Bit CMOS Microcontroller nanoWatt; ki_description: PIC16F689, 4096W Flash, 256B SRAM, 256B EEPROM, SSOP20; ki_fp_filters: SSOP*; Supplier: http://ww1.microchip.com/downloads/en/DeviceDoc/41262E.pdf
pins: 1 VDD (power), 2 T1CKI/OSC1/CLKIN/RA5 (io), 3 ~{{T1G}/OSC2/CLKOUT/AN3/RA4} (io), 4 Vpp/~{{MCLR}/RA3} (in), 5 RC5 (io), 6 RC4/C2OUT (io), 7 RC3/AN7/C12IN3- (io), 8 RC6/AN8/~{{SS}} (io), 9 RC7/AN9/SDO (io), 10 TX/CK/RB7 (io), 11 SCK/SCL/RB6 (io), 12 RX/DT/AN11/RB5 (io), 13 SDI/SDA/AN10/RB4 (io), 14 RC2/AN6/C12IN2- (io), 15 RC1/AN5/C12IN1- (io), 16 RC0/AN4/C2IN+ (io), 17 T0CKI/INT/C1OUT/AN2/RA2 (io), 18 C12IN0-/ICSPCLK/Vref/AN1/RA1 (io), 19 C1IN+/ICSPDAT/ULPWU/AN0/RA0 (io), 20 VSS (power)

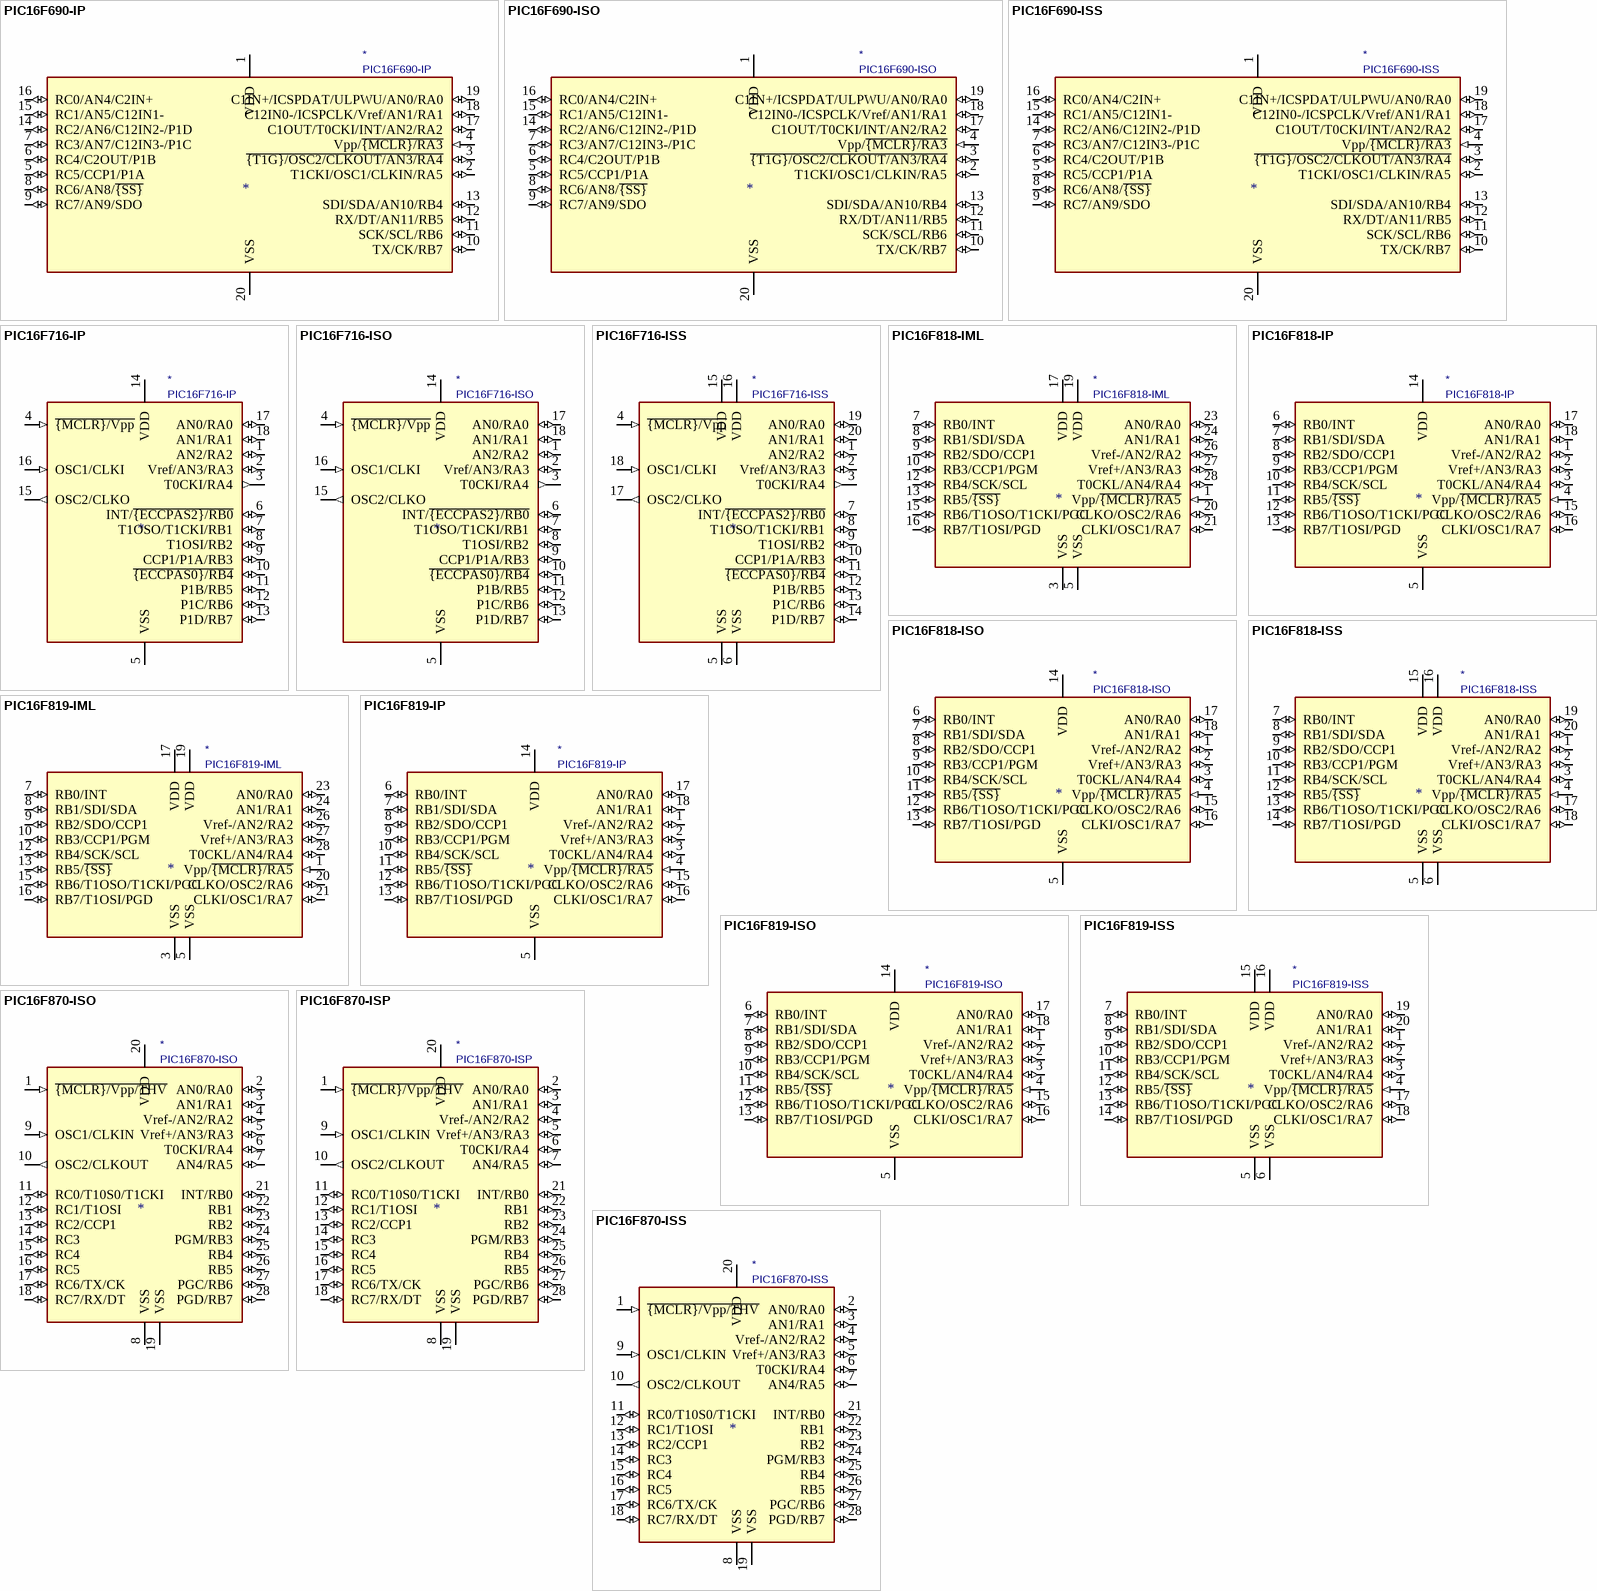
[diagram p4: symbols PIC16F690-IP to PIC16F870-ISS]

## PIC16F690-IP
designator *  value PIC16F690-IP
ki_keywords: Flash-Based 8-Bit CMOS Microcontroller nanoWatt; ki_description: 4096W Flash, 256B SRAM, 256B EEPROM, DIP20; ki_fp_filters: DIP* PDIP*; Supplier: http://ww1.microchip.com/downloads/en/DeviceDoc/41262E.pdf
pins: 1 VDD (power), 2 T1CKI/OSC1/CLKIN/RA5 (io), 3 ~{{T1G}/OSC2/CLKOUT/AN3/RA4} (io), 4 Vpp/~{{MCLR}/RA3} (in), 5 RC5/CCP1/P1A (io), 6 RC4/C2OUT/P1B (io), 7 RC3/AN7/C12IN3-/P1C (io), 8 RC6/AN8/~{{SS}} (io), 9 RC7/AN9/SDO (io), 10 TX/CK/RB7 (io), 11 SCK/SCL/RB6 (io), 12 RX/DT/AN11/RB5 (io), 13 SDI/SDA/AN10/RB4 (io), 14 RC2/AN6/C12IN2-/P1D (io), 15 RC1/AN5/C12IN1- (io), 16 RC0/AN4/C2IN+ (io), 17 C1OUT/T0CKI/INT/AN2/RA2 (io), 18 C12IN0-/ICSPCLK/Vref/AN1/RA1 (io), 19 C1IN+/ICSPDAT/ULPWU/AN0/RA0 (io), 20 VSS (power)

## PIC16F690-ISO
designator *  value PIC16F690-ISO
ki_keywords: Flash-Based 8-Bit CMOS Microcontroller nanoWatt; ki_description: PIC16F690, 4096W Flash, 256B SRAM, 256B EEPROM, SO20; ki_fp_filters: SO*; Supplier: http://ww1.microchip.com/downloads/en/DeviceDoc/41262E.pdf
pins: 1 VDD (power), 2 T1CKI/OSC1/CLKIN/RA5 (io), 3 ~{{T1G}/OSC2/CLKOUT/AN3/RA4} (io), 4 Vpp/~{{MCLR}/RA3} (in), 5 RC5/CCP1/P1A (io), 6 RC4/C2OUT/P1B (io), 7 RC3/AN7/C12IN3-/P1C (io), 8 RC6/AN8/~{{SS}} (io), 9 RC7/AN9/SDO (io), 10 TX/CK/RB7 (io), 11 SCK/SCL/RB6 (io), 12 RX/DT/AN11/RB5 (io), 13 SDI/SDA/AN10/RB4 (io), 14 RC2/AN6/C12IN2-/P1D (io), 15 RC1/AN5/C12IN1- (io), 16 RC0/AN4/C2IN+ (io), 17 C1OUT/T0CKI/INT/AN2/RA2 (io), 18 C12IN0-/ICSPCLK/Vref/AN1/RA1 (io), 19 C1IN+/ICSPDAT/ULPWU/AN0/RA0 (io), 20 VSS (power)

## PIC16F690-ISS
designator *  value PIC16F690-ISS
ki_keywords: Flash-Based 8-Bit CMOS Microcontroller nanoWatt; ki_description: PIC16F690, 4096W Flash, 256B SRAM, 256B EEPROM, SSOP20; ki_fp_filters: SSOP*; Supplier: http://ww1.microchip.com/downloads/en/DeviceDoc/41262E.pdf
pins: 1 VDD (power), 2 T1CKI/OSC1/CLKIN/RA5 (io), 3 ~{{T1G}/OSC2/CLKOUT/AN3/RA4} (io), 4 Vpp/~{{MCLR}/RA3} (in), 5 RC5/CCP1/P1A (io), 6 RC4/C2OUT/P1B (io), 7 RC3/AN7/C12IN3-/P1C (io), 8 RC6/AN8/~{{SS}} (io), 9 RC7/AN9/SDO (io), 10 TX/CK/RB7 (io), 11 SCK/SCL/RB6 (io), 12 RX/DT/AN11/RB5 (io), 13 SDI/SDA/AN10/RB4 (io), 14 RC2/AN6/C12IN2-/P1D (io), 15 RC1/AN5/C12IN1- (io), 16 RC0/AN4/C2IN+ (io), 17 C1OUT/T0CKI/INT/AN2/RA2 (io), 18 C12IN0-/ICSPCLK/Vref/AN1/RA1 (io), 19 C1IN+/ICSPDAT/ULPWU/AN0/RA0 (io), 20 VSS (power)

## PIC16F716-IP
designator *  value PIC16F716-IP
ki_keywords: FLASH-Based 8-Bit CMOS Microcontroller; ki_description: 2048W Flash, 128B SRAM, DIP18; ki_fp_filters: DIP* PDIP*; Supplier: http://ww1.microchip.com/downloads/en/DeviceDoc/41206B.pdf
pins: 1 AN2/RA2 (io), 2 Vref/AN3/RA3 (io), 3 T0CKI/RA4 (out), 4 ~{{MCLR}/Vpp} (in), 5 VSS (power), 6 INT/~{{ECCPAS2}/RB0} (io), 7 T1OSO/T1CKI/RB1 (io), 8 T1OSI/RB2 (io), 9 CCP1/P1A/RB3 (io), 10 ~{{ECCPAS0}/RB4} (io), 11 P1B/RB5 (io), 12 P1C/RB6 (io), 13 P1D/RB7 (io), 14 VDD (power), 15 OSC2/CLKO (out), 16 OSC1/CLKI (in), 17 AN0/RA0 (io), 18 AN1/RA1 (io)

## PIC16F716-ISO
designator *  value PIC16F716-ISO
ki_keywords: FLASH-Based 8-Bit CMOS Microcontroller; ki_description: PIC16F716, 2048W Flash, 128B SRAM, SO18; ki_fp_filters: SO*; Supplier: http://ww1.microchip.com/downloads/en/DeviceDoc/41206B.pdf
pins: 1 AN2/RA2 (io), 2 Vref/AN3/RA3 (io), 3 T0CKI/RA4 (out), 4 ~{{MCLR}/Vpp} (in), 5 VSS (power), 6 INT/~{{ECCPAS2}/RB0} (io), 7 T1OSO/T1CKI/RB1 (io), 8 T1OSI/RB2 (io), 9 CCP1/P1A/RB3 (io), 10 ~{{ECCPAS0}/RB4} (io), 11 P1B/RB5 (io), 12 P1C/RB6 (io), 13 P1D/RB7 (io), 14 VDD (power), 15 OSC2/CLKO (out), 16 OSC1/CLKI (in), 17 AN0/RA0 (io), 18 AN1/RA1 (io)

## PIC16F716-ISS
designator *  value PIC16F716-ISS
ki_keywords: FLASH-Based 8-Bit CMOS Microcontroller; ki_description: PIC16F716, 2048W Flash, 128B SRAM, SSOP20; ki_fp_filters: SSOP*; Supplier: http://ww1.microchip.com/downloads/en/DeviceDoc/41206B.pdf
pins: 1 AN2/RA2 (io), 2 Vref/AN3/RA3 (io), 3 T0CKI/RA4 (out), 4 ~{{MCLR}/Vpp} (in), 5 VSS (power), 6 VSS (power), 7 INT/~{{ECCPAS2}/RB0} (io), 8 T1OSO/T1CKI/RB1 (io), 9 T1OSI/RB2 (io), 10 CCP1/P1A/RB3 (io), 11 ~{{ECCPAS0}/RB4} (io), 12 P1B/RB5 (io), 13 P1C/RB6 (io), 14 P1D/RB7 (io), 15 VDD (power), 16 VDD (power), 17 OSC2/CLKO (out), 18 OSC1/CLKI (in), 19 AN0/RA0 (io), 20 AN1/RA1 (io)

## PIC16F818-IML
designator *  value PIC16F818-IML
ki_keywords: Flash-Based 8-Bit Microcontroller nanoWatt; ki_description: PIC16F818, 1792B Flash, 128B SRAM, 128B EEPROM, ADC, QFN28; ki_fp_filters: QFN*; Supplier: http://ww1.microchip.com/downloads/en/DeviceDoc/39598F.pdf
pins: 1 Vpp/~{{MCLR}/RA5} (in), 3 VSS (power), 5 VSS (power), 7 RB0/INT (io), 8 RB1/SDI/SDA (io), 9 RB2/SDO/CCP1 (io), 10 RB3/CCP1/PGM (io), 12 RB4/SCK/SCL (io), 13 RB5/~{{SS}} (io), 15 RB6/T1OSO/T1CKI/PGC (io), 16 RB7/T1OSI/PGD (io), 17 VDD (power), 19 VDD (power), 20 CLKO/OSC2/RA6 (io), 21 CLKI/OSC1/RA7 (io), 23 AN0/RA0 (io), 24 AN1/RA1 (io), 26 Vref-/AN2/RA2 (io), 27 Vref+/AN3/RA3 (io), 28 T0CKL/AN4/RA4 (io)

## PIC16F818-IP
designator *  value PIC16F818-IP
ki_keywords: Flash-Based 8-Bit Microcontroller nanoWatt; ki_description: 1792B Flash, 128B SRAM, 128B EEPROM, ADC, DIP18; ki_fp_filters: DIP* PDIP*; Supplier: http://ww1.microchip.com/downloads/en/DeviceDoc/39598F.pdf
pins: 1 Vref-/AN2/RA2 (io), 2 Vref+/AN3/RA3 (io), 3 T0CKL/AN4/RA4 (io), 4 Vpp/~{{MCLR}/RA5} (in), 5 VSS (power), 6 RB0/INT (io), 7 RB1/SDI/SDA (io), 8 RB2/SDO/CCP1 (io), 9 RB3/CCP1/PGM (io), 10 RB4/SCK/SCL (io), 11 RB5/~{{SS}} (io), 12 RB6/T1OSO/T1CKI/PGC (io), 13 RB7/T1OSI/PGD (io), 14 VDD (power), 15 CLKO/OSC2/RA6 (io), 16 CLKI/OSC1/RA7 (io), 17 AN0/RA0 (io), 18 AN1/RA1 (io)

## PIC16F818-ISO
designator *  value PIC16F818-ISO
ki_keywords: Flash-Based 8-Bit Microcontroller nanoWatt; ki_description: PIC16F818, 1792B Flash, 128B SRAM, 128B EEPROM, ADC, SOIC18; ki_fp_filters: SO*; Supplier: http://ww1.microchip.com/downloads/en/DeviceDoc/39598F.pdf
pins: 1 Vref-/AN2/RA2 (io), 2 Vref+/AN3/RA3 (io), 3 T0CKL/AN4/RA4 (io), 4 Vpp/~{{MCLR}/RA5} (in), 5 VSS (power), 6 RB0/INT (io), 7 RB1/SDI/SDA (io), 8 RB2/SDO/CCP1 (io), 9 RB3/CCP1/PGM (io), 10 RB4/SCK/SCL (io), 11 RB5/~{{SS}} (io), 12 RB6/T1OSO/T1CKI/PGC (io), 13 RB7/T1OSI/PGD (io), 14 VDD (power), 15 CLKO/OSC2/RA6 (io), 16 CLKI/OSC1/RA7 (io), 17 AN0/RA0 (io), 18 AN1/RA1 (io)